# Altium schematic symbol library Sensors.SchLib: 104 symbols
Pins are listed as number, name and electrical type; pins without a type are passive.

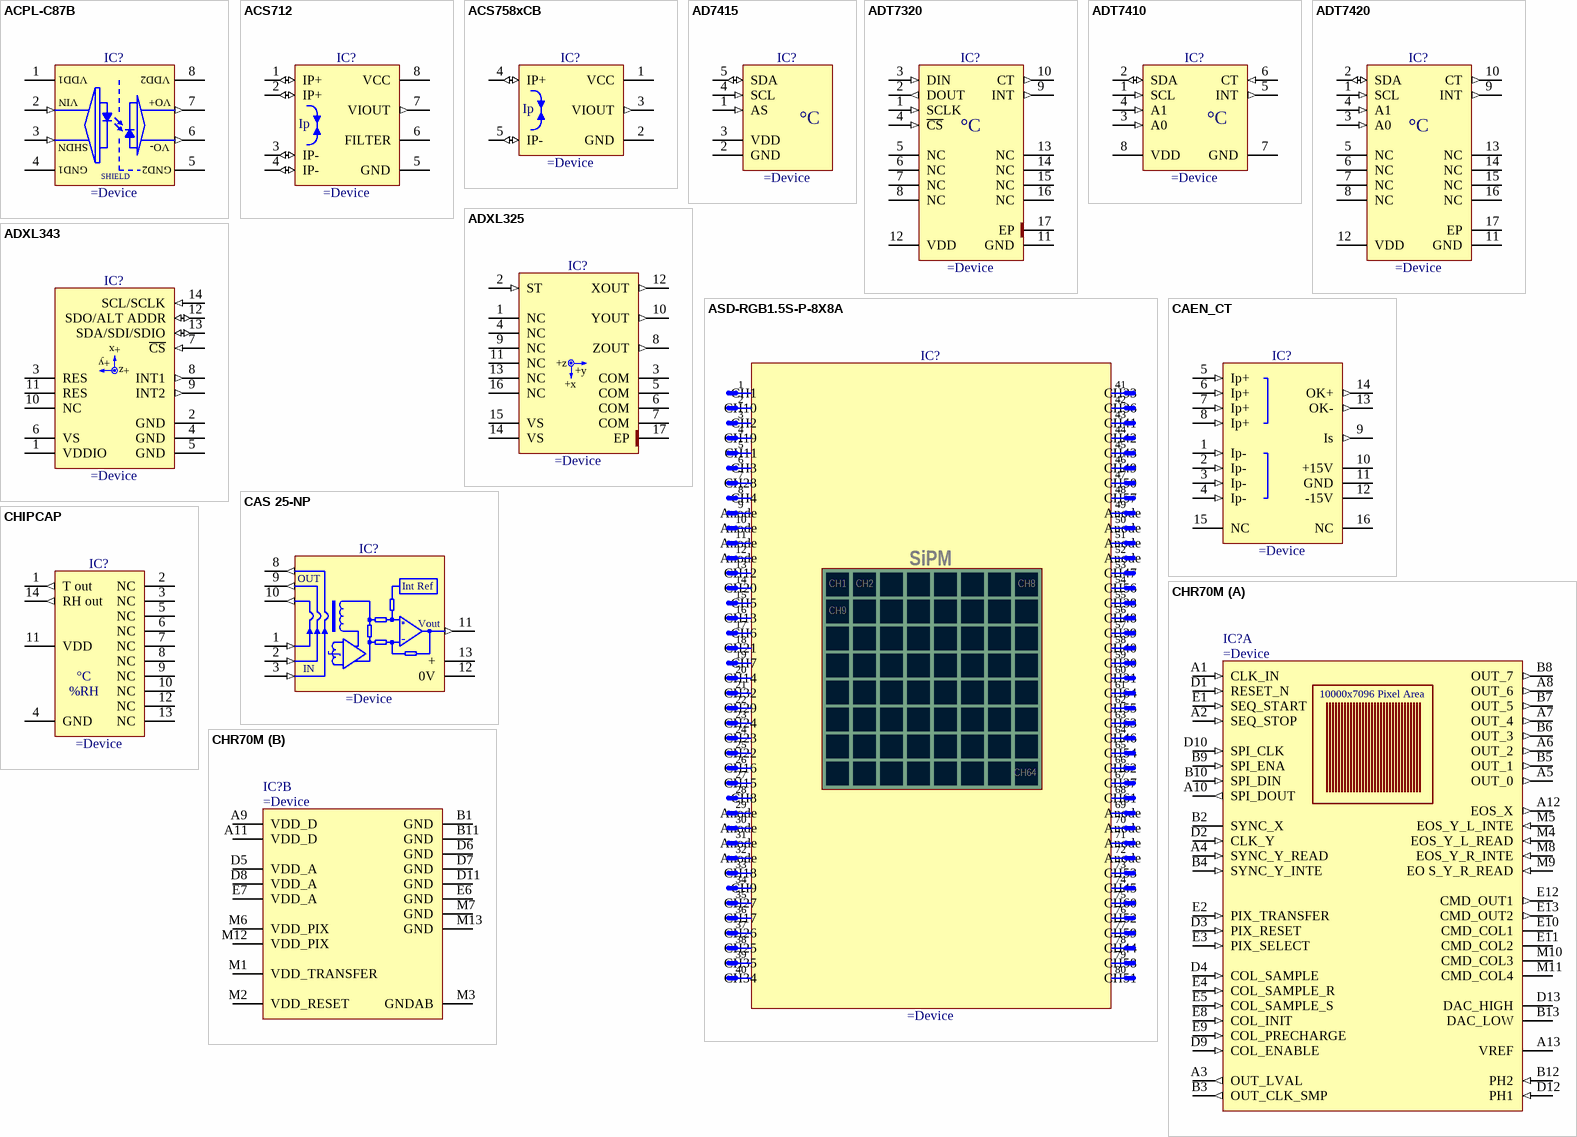
[diagram p0: symbols ACPL-C87B to CHR70M]

## ACPL-C87B
designator IC?
Precision Optically Isolated Voltage Sensor
pins: 1 VDD1 (power), 2 VIN (in), 3 SHDN (in), 4 GND1 (power), 5 GND2 (power), 6 VOUT- (out), 7 VOUT+ (out), 8 VDD2 (power)
text: VO+; VO-; SHIELD

## ACS712
designator IC?
Fully Integrated, Hall Effect-Based Linear Current Sensor IC with 2.1 kVRMS Isolation
pins: 1 IP+ (io), 2 IP+ (io), 3 IP- (io), 4 IP- (io), 5 GND (power), 6 FILTER, 7 VIOUT (out), 8 VCC (power)
text: Ip

## ACS758xCB
designator IC?
Thermally Enhanced, Fully Integrated, Hall Effect-Based Linear Current Sensor IC with 100μΩ Current Conductor
pins: 1 VCC (power), 2 GND (power), 3 VIOUT (out), 4 IP+ (io), 5 IP- (io)
text: Ip

## AD7415
designator IC?
±0.5°C Accurate, 10-Bit Digital Temperature Sensors
pins: 1 AS (in), 2 GND (power), 3 VDD (power), 4 SCL (in), 5 SDA (io)
text: °C

## ADT7320
designator IC?
-40° to +150°C, ±0.25°C Accurate, 16-Bit Digital SPI Temperature Sensor
pins: 1 SCLK (in), 2 DOUT (out), 3 DIN (in), 4 ~{CS} (in), 5 NC, 6 NC, 7 NC, 8 NC, 9 INT (out), 10 CT (out), 11 GND (power), 12 VDD (power), 13 NC, 14 NC, 15 NC, 16 NC, 17 EP (power)
text: °C

## ADT7410
designator IC?
±0.5°C Accurate, 16-Bit Digital I2C Temperature Sensor
pins: 1 SCL (in), 2 SDA (io), 3 A0 (in), 4 A1 (in), 5 INT (out), 6 CT (in), 7 GND (power), 8 VDD (power)
text: °C

## ADT7420
designator IC?
±0.25°C Accurate, 16-Bit Digital I2C Temperature Sensor
pins: 1 SCL (in), 2 SDA (io), 3 A0 (in), 4 A1 (in), 5 NC, 6 NC, 7 NC, 8 NC, 9 INT (out), 10 CT (out), 11 GND (power), 12 VDD (power), 13 NC, 14 NC, 15 NC, 16 NC, 17 EP (power)
text: °C

## ADXL325
designator IC?
Small, Low Power, 3-Axis ±5g Accelerometer
pins: 1 NC, 2 ST (in), 3 COM (power), 4 NC, 5 COM (power), 6 COM (power), 7 COM (power), 8 ZOUT (out), 9 NC, 10 YOUT (out), 11 NC, 12 XOUT (out), 13 NC, 14 VS (power), 15 VS (power), 16 NC, 17 EP (power)
text: +z; +y; +x

## ADXL343
designator IC?
3-Axis, ±2g/±4g/±8g/±16g Digital MEMS Accelerometer
pins: 1 VDDIO (power), 2 GND (power), 3 RES, 4 GND (power), 5 GND (power), 6 VS (power), 7 ~{CS} (in), 8 INT1 (out), 9 INT2 (out), 10 NC, 11 RES, 12 SDO/ALT ADDR (io), 13 SDA/SDI/SDIO (io), 14 SCL/SCLK (in)
text: +x; +y; +z

## ASD-RGB1.5S-P-8X8A
designator IC?
8x8 Monolithic Array of 1.5x1.5 mm2 SiPMs (Silicon PhotoMultiplier)
text: 1; 41; CH1; CH33; 2; 42; CH10; CH36; 3; 43; CH2; CH41; 4; 44; CH19; CH42; 5; 45; CH11; CH43; 6; 46; CH3; CH49; 7; 47; CH28; CH50; 8; 48; CH4; CH57; 9; 49; Anode; 10; 50; 11; 51; 12; 52; SiPM; 13; 53; CH12; CH47; 14; CH8; 54; CH20; CH56; 15; 55; CH5; CH38; 16; CH9; 56; CH13; CH48; 17; 57; CH6; CH39; 18; 58; CH21; CH40; 19; 59; CH7; CH30; 20; 60; CH14; CH31; 21; 61; CH32; CH64; 22; 62; CH29; CH55; 23; 63; CH24; CH63; 24; 64; CH23; CH46; 25; 65; CH22; CH54; 26; 66; CH16; CH62; 27; 67; CH15; CH37; 28; 68; CH61; 29; 69; 30; 70; 31; 71; 32; 72; 33; 73; CH18; CH53; 34; 74; CH45; 35; 75; CH27; CH60; 36; 76; CH17; CH52; 37; 77; CH26; CH59; 38; 78; CH25; CH44; 39; 79; CH35; CH58; 40; 80; CH34; CH51

## CAEN_CT
designator IC?
DC Current Transducer, CT PCB Series
pins: 1 Ip- (in), 2 Ip- (in), 3 Ip- (in), 4 Ip- (in), 5 Ip+ (in), 6 Ip+ (in), 7 Ip+ (in), 8 Ip+ (in), 9 Is (out), 10 +15V (power), 11 GND (power), 12 -15V (power), 13 OK- (out), 14 OK+ (out), 15 NC, 16 NC

## CAS 25-NP
designator IC?
Current Transducer, Ipn= 25A
pins: 1 IN1 (in), 2 IN2 (in), 3 IN3 (in), 8 OUT3 (out), 9 OUT2 (out), 10 OUT1 (out), 11 VOUT (out), 12 0V (power), 13 + (power)
text: OUT; Int Ref; Vout; IN

## CHIPCAP
designator IC?
Humidity and Temperature Sensor IC
pins: 1 T out (out), 2 NC, 3 NC, 4 GND (power), 5 NC, 6 NC, 7 NC, 8 NC, 9 NC, 10 NC, 11 VDD (power), 12 NC, 13 NC, 14 RH out (out)
text: °C; %RH

## CHR70M
designator IC?
High Resolution 70 Megapixels CMOS Image Sensor
part A pins: A1 CLK_IN (in), A2 SEQ_STOP (in), A3 OUT_LVAL (out), A4 SYNC_Y_READ (in), A5 OUT_0 (out), A6 OUT_2 (out), A7 OUT_4 (out), A8 OUT_6 (out), A10 SPI_DOUT (out), A12 EOS_X (out), A13 VREF, B2 SYNC_X, B3 OUT_CLK_SMP (out), B4 SYNC_Y_INTE (in), B5 OUT_1 (out), B6 OUT_3 (out), B7 OUT_5 (out), B8 OUT_7 (out), B9 SPI_ENA (in), B10 SPI_DIN (in), B12 PH2 (in), B13 DAC_LOW, D1 RESET_N (in), D2 CLK_Y (in), D3 PIX_RESET (in), D4 COL_SAMPLE (in), D9 COL_ENABLE (in), D10 SPI_CLK (in), D12 PH1 (in), D13 DAC_HIGH, E1 SEQ_START (in), E2 PIX_TRANSFER (in), E3 PIX_SELECT (in), E4 COL_SAMPLE_R (in), E5 COL_SAMPLE_S (in), E8 COL_INIT (in), E9 COL_PRECHARGE (in), E10 CMD_COL1, E11 CMD_COL2, E12 CMD_OUT1 (out), E13 CMD_OUT2 (out), M4 EOS_Y_L_READ (in), M5 EOS_Y_L_INTE (in), M8 EOS_Y_R_INTE (in), M9 EO S_Y_R_READ (in), M10 CMD_COL3, M11 CMD_COL4
part B pins: A9 VDD_D (power), A11 VDD_D (power), B1 GND (power), B11 GND (power), D5 VDD_A (power), D6 GND (power), D7 GND (power), D8 VDD_A (power), D11 GND (power), E6 GND (power), E7 VDD_A (power), M1 VDD_TRANSFER (power), M2 VDD_RESET (power), M3 GNDAB (power), M6 VDD_PIX (power), M7 GND (power), M12 VDD_PIX (power), M13 GND (power)
part A text: 10000x7096 Pixel Area

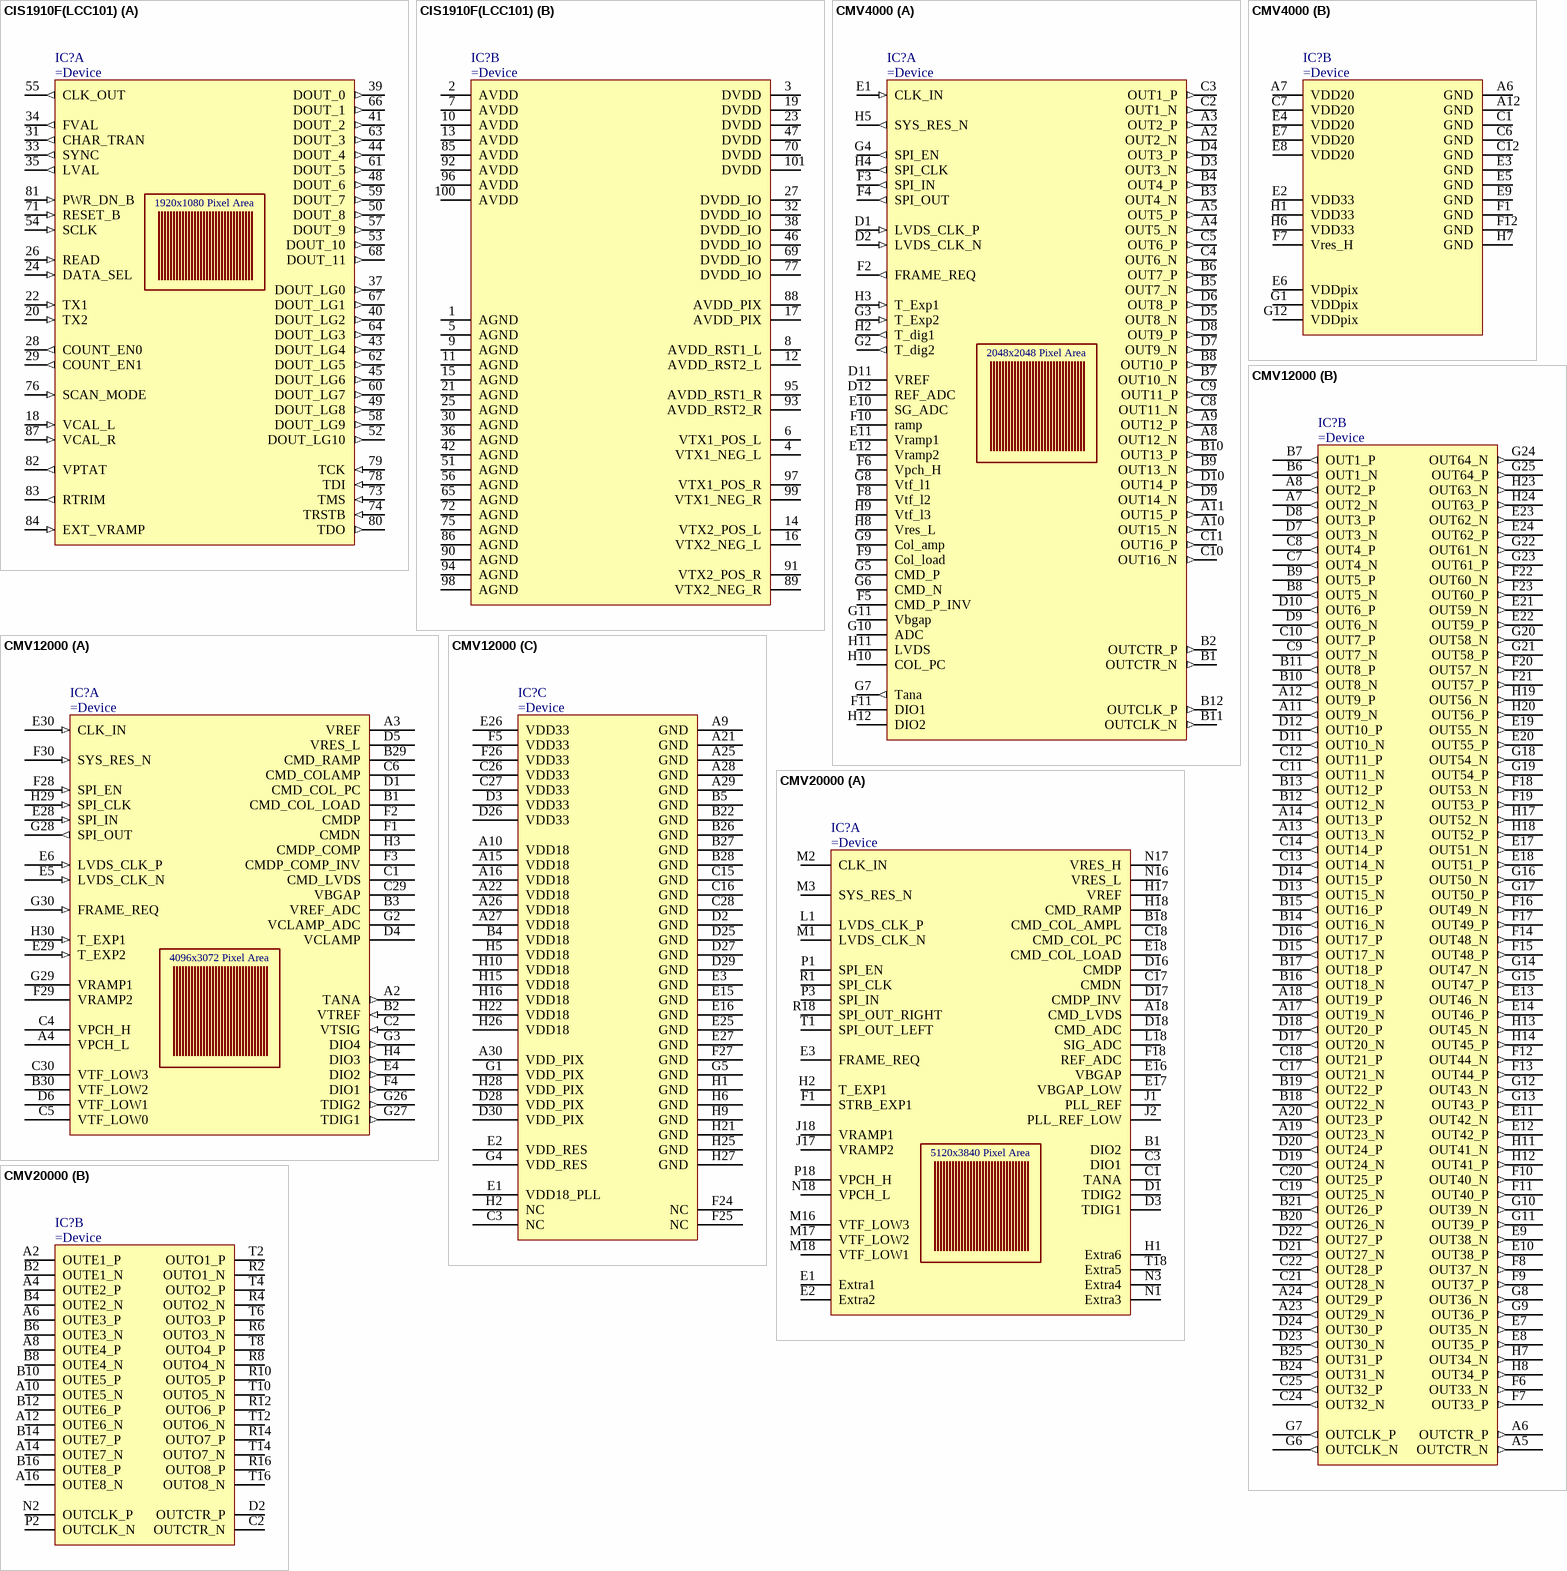
[diagram p1: symbols CIS1910F(LCC101) to CMV20000]

## CIS1910F(LCC101)
designator IC?
2.1 Megapixels (1920 x 1080 Pixel) CMOS Image Sensor
part A pins: 18 VCAL_L (in), 20 TX2 (in), 22 TX1 (in), 24 DATA_SEL (in), 26 READ (in), 28 COUNT_EN0 (out), 29 COUNT_EN1 (out), 31 CHAR_TRAN (out), 33 SYNC (out), 34 FVAL (out), 35 LVAL (out), 37 DOUT_LG0 (out), 39 DOUT_0 (out), 40 DOUT_LG2 (out), 41 DOUT_2 (out), 43 DOUT_LG4 (out), 44 DOUT_4 (out), 45 DOUT_LG6 (out), 48 DOUT_6 (out), 49 DOUT_LG8 (out), 50 DOUT_8 (out), 52 DOUT_LG10 (out), 53 DOUT_10 (out), 54 SCLK (in), 55 CLK_OUT (out), 57 DOUT_9 (out), 58 DOUT_LG9 (out), 59 DOUT_7 (out), 60 DOUT_LG7 (out), 61 DOUT_5 (out), 62 DOUT_LG5 (out), 63 DOUT_3 (out), 64 DOUT_LG3 (out), 66 DOUT_1 (out), 67 DOUT_LG1 (out), 68 DOUT_11 (out), 71 RESET_B (in), 73 TMS (in), 74 TRSTB (in), 76 SCAN_MODE (in), 78 TDI (in), 79 TCK (in), 80 TDO (out), 81 PWR_DN_B (in), 82 VPTAT (out), 83 RTRIM (out), 84 EXT_VRAMP (in), 87 VCAL_R (in)
part B pins: 1 AGND (power), 2 AVDD (power), 3 DVDD (power), 4 VTX1_NEG_L (power), 5 AGND (power), 6 VTX1_POS_L (power), 7 AVDD (power), 8 AVDD_RST1_L (power), 9 AGND (power), 10 AVDD (power), 11 AGND (power), 12 AVDD_RST2_L (power), 13 AVDD (power), 14 VTX2_POS_L (power), 15 AGND (power), 16 VTX2_NEG_L (power), 17 AVDD_PIX (power), 19 DVDD (power), 21 AGND (power), 23 DVDD (power), 25 AGND (power), 27 DVDD_IO (power), 30 AGND (power), 32 DVDD_IO (power), 36 AGND (power), 38 DVDD_IO (power), 42 AGND (power), 46 DVDD_IO (power), 47 DVDD (power), 51 AGND (power), 56 AGND (power), 65 AGND (power), 69 DVDD_IO (power), 70 DVDD (power), 72 AGND (power), 75 AGND (power), 77 DVDD_IO (power), 85 AVDD (power), 86 AGND (power), 88 AVDD_PIX (power), 89 VTX2_NEG_R (power), 90 AGND (power), 91 VTX2_POS_R (power), 92 AVDD (power), 93 AVDD_RST2_R (power), 94 AGND (power), 95 AVDD_RST1_R (power), 96 AVDD (power), 97 VTX1_POS_R (power), 98 AGND (power), 99 VTX1_NEG_R (power), 100 AVDD (power), 101 DVDD (power)
part A text: 1920x1080 Pixel Area

## CMV4000
designator IC?
Megapixel Machine Vision CMOS Image Sensor
part A pins: A2 OUT2_N (out), A3 OUT2_P (out), A4 OUT5_N (out), A5 OUT5_P (out), A8 OUT12_N (out), A9 OUT12_P (out), A10 OUT15_N (out), A11 OUT15_P (out), B1 OUTCTR_N (out), B2 OUTCTR_P (out), B3 OUT4_N (out), B4 OUT4_P (out), B5 OUT7_N (out), B6 OUT7_P (out), B7 OUT10_N (out), B8 OUT10_P (out), B9 OUT13_N (out), B10 OUT13_P (out), B11 OUTCLK_N (out), B12 OUTCLK_P (out), C2 OUT1_N (out), C3 OUT1_P (out), C4 OUT6_N (out), C5 OUT6_P (out), C8 OUT11_N (out), C9 OUT11_P (out), C10 OUT16_N (out), C11 OUT16_P (out), D1 LVDS_CLK_P (in), D2 LVDS_CLK_N (in), D3 OUT3_N (out), D4 OUT3_P (out), D5 OUT8_N (out), D6 OUT8_P (out), D7 OUT9_N (out), D8 OUT9_P (out), D9 OUT14_N (out), D10 OUT14_P (out), D11 VREF, D12 REF_ADC, E1 CLK_IN (in), E10 SG_ADC, E11 Vramp1, E12 Vramp2, F2 FRAME_REQ (out), F3 SPI_IN (out), F4 SPI_OUT (out), F5 CMD_P_INV, F6 Vpch_H, F8 Vtf_l2, F9 Col_load, F10 ramp, F11 DIO1, G2 T_dig2 (out), G3 T_Exp2 (in), G4 SPI_EN (out), G5 CMD_P, G6 CMD_N, G7 Tana (out), G8 Vtf_l1, G9 Col_amp, G10 ADC, G11 Vbgap, H2 T_dig1 (out), H3 T_Exp1 (in), H4 SPI_CLK (out), H5 SYS_RES_N (out), H8 Vres_L, H9 Vtf_l3, H10 COL_PC, H11 LVDS, H12 DIO2
part B pins: A6 GND (power), A7 VDD20 (power), A12 GND (power), C1 GND (power), C6 GND (power), C7 VDD20 (power), C12 GND (power), E2 VDD33 (power), E3 GND (power), E4 VDD20 (power), E5 GND (power), E6 VDDpix (power), E7 VDD20 (power), E8 VDD20 (power), E9 GND (power), F1 GND (power), F7 Vres_H (power), F12 GND (power), G1 VDDpix (power), G12 VDDpix (power), H1 VDD33 (power), H6 VDD33 (power), H7 GND (power)
part A text: 2048x2048 Pixel Area

## CMV12000
designator IC?
12 Megapixel Machine Vision CMOS Image Sensor
part A pins: A2 TANA (out), A3 VREF, A4 VPCH_L, B1 CMD_COL_LOAD, B2 VTREF (in), B3 VREF_ADC, B29 CMD_RAMP, B30 VTF_LOW2, C1 CMD_LVDS, C2 VTSIG (in), C4 VPCH_H, C5 VTF_LOW0, C6 CMD_COLAMP, C29 VBGAP, C30 VTF_LOW3, D1 CMD_COL_PC, D4 VCLAMP, D5 VRES_L, D6 VTF_LOW1, E4 DIO2 (out), E5 LVDS_CLK_N (in), E6 LVDS_CLK_P (in), E28 SPI_IN (in), E29 T_EXP2 (in), E30 CLK_IN (in), F1 CMDN, F2 CMDP, F3 CMDP_COMP_INV, F4 DIO1 (out), F28 SPI_EN (in), F29 VRAMP2, F30 SYS_RES_N (in), G2 VCLAMP_ADC, G3 DIO4 (out), G26 TDIG2 (out), G27 TDIG1 (out), G28 SPI_OUT (out), G29 VRAMP1, G30 FRAME_REQ (in), H3 CMDP_COMP, H4 DIO3 (out), H29 SPI_CLK (in), H30 T_EXP1 (in)
part B pins: A5 OUTCTR_N (out), A6 OUTCTR_P (out), A7 OUT2_N (out), A8 OUT2_P (out), A11 OUT9_N (out), A12 OUT9_P (out), A13 OUT13_N (out), A14 OUT13_P (out), A17 OUT19_N (out), A18 OUT19_P (out), A19 OUT23_N (out), A20 OUT23_P (out), A23 OUT29_N (out), A24 OUT29_P (out), B6 OUT1_N (out), B7 OUT1_P (out), B8 OUT5_N (out), B9 OUT5_P (out), B10 OUT8_N (out), B11 OUT8_P (out), B12 OUT12_N (out), B13 OUT12_P (out), B14 OUT16_N (out), B15 OUT16_P (out), B16 OUT18_N (out), B17 OUT18_P (out), B18 OUT22_N (out), B19 OUT22_P (out), B20 OUT26_N (out), B21 OUT26_P (out), B24 OUT31_N (out), B25 OUT31_P (out), C7 OUT4_N (out), C8 OUT4_P (out), C9 OUT7_N (out), C10 OUT7_P (out), C11 OUT11_N (out), C12 OUT11_P (out), C13 OUT14_N (out), C14 OUT14_P (out), C17 OUT21_N (out), C18 OUT21_P (out), C19 OUT25_N (out), C20 OUT25_P (out), C21 OUT28_N (out), C22 OUT28_P (out), C24 OUT32_N (out), C25 OUT32_P (out), D7 OUT3_N (out), D8 OUT3_P (out), D9 OUT6_N (out), D10 OUT6_P (out), D11 OUT10_N (out), D12 OUT10_P (out), D13 OUT15_N (out), D14 OUT15_P (out), D15 OUT17_N (out), D16 OUT17_P (out), D17 OUT20_N (out), D18 OUT20_P (out), D19 OUT24_N (out), D20 OUT24_P (out), D21 OUT27_N (out), D22 OUT27_P (out), D23 OUT30_N (out), D24 OUT30_P (out), E7 OUT35_N (out), E8 OUT35_P (out), E9 OUT38_N (out), E10 OUT38_P (out), E11 OUT42_N (out), E12 OUT42_P (out), E13 OUT46_N (out), E14 OUT46_P (out), E17 OUT51_N (out), E18 OUT51_P (out), E19 OUT55_N (out), E20 OUT55_P (out), E21 OUT59_N (out), E22 OUT59_P (out), E23 OUT62_N (out), E24 OUT62_P (out), F6 OUT33_N (out), F7 OUT33_P (out), F8 OUT37_N (out), F9 OUT37_P (out), F10 OUT40_N (out), F11 OUT40_P (out), F12 OUT44_N (out), F13 OUT44_P (out), F14 OUT48_N (out), F15 OUT48_P (out), F16 OUT49_N (out), F17 OUT49_P (out), F18 OUT53_N (out), F19 OUT53_P (out), F20 OUT57_N (out), F21 OUT57_P (out), F22 OUT60_N (out), F23 OUT60_P (out), G6 OUTCLK_N (out), G7 OUTCLK_P (out), G8 OUT36_N (out), G9 OUT36_P (out), G10 OUT39_N (out), G11 OUT39_P (out), G12 OUT43_N (out), G13 OUT43_P (out), G14 OUT47_N (out), G15 OUT47_P (out), G16 OUT50_N (out), G17 OUT50_P (out), G18 OUT54_N (out), G19 OUT54_P (out), G20 OUT58_N (out), G21 OUT58_P (out), G22 OUT61_N (out), G23 OUT61_P (out), G24 OUT64_N (out), G25 OUT64_P (out), H7 OUT34_N (out), H8 OUT34_P (out), H11 OUT41_N (out), H12 OUT41_P (out), H13 OUT45_N (out), H14 OUT45_P (out), H17 OUT52_N (out), H18 OUT52_P (out), H19 OUT56_N (out), H20 OUT56_P (out), H23 OUT63_N (out), H24 OUT63_P (out)
part C pins: A9 GND (power), A10 VDD18 (power), A15 VDD18 (power), A16 VDD18 (power), A21 GND (power), A22 VDD18 (power), A25 GND (power), A26 VDD18 (power), A27 VDD18 (power), A28 GND (power), A29 GND (power), A30 VDD_PIX (power), B4 VDD18 (power), B5 GND (power), B22 GND (power), B26 GND (power), B27 GND (power), B28 GND (power), C3 NC, C15 GND (power), C16 GND (power), C26 VDD33 (power), C27 VDD33 (power), C28 GND (power), D2 GND (power), D3 VDD33 (power), D25 GND (power), D26 VDD33 (power), D27 GND (power), D28 VDD_PIX (power), D29 GND (power), D30 VDD_PIX (power), E1 VDD18_PLL (power), E2 VDD_RES (power), E3 GND (power), E15 GND (power), E16 GND (power), E25 GND (power), E26 VDD33 (power), E27 GND (power), F5 VDD33 (power), F24 NC, F25 NC, F26 VDD33 (power), F27 GND (power), G1 VDD_PIX (power), G4 VDD_RES (power), G5 GND (power), H1 GND (power), H2 NC, H5 VDD18 (power), H6 GND (power), H9 GND (power), H10 VDD18 (power), H15 VDD18 (power), H16 VDD18 (power), H21 GND (power), H22 VDD18 (power), H25 GND (power), H26 VDD18 (power), H27 GND (power), H28 VDD_PIX (power)
part A text: 4096x3072 Pixel Area

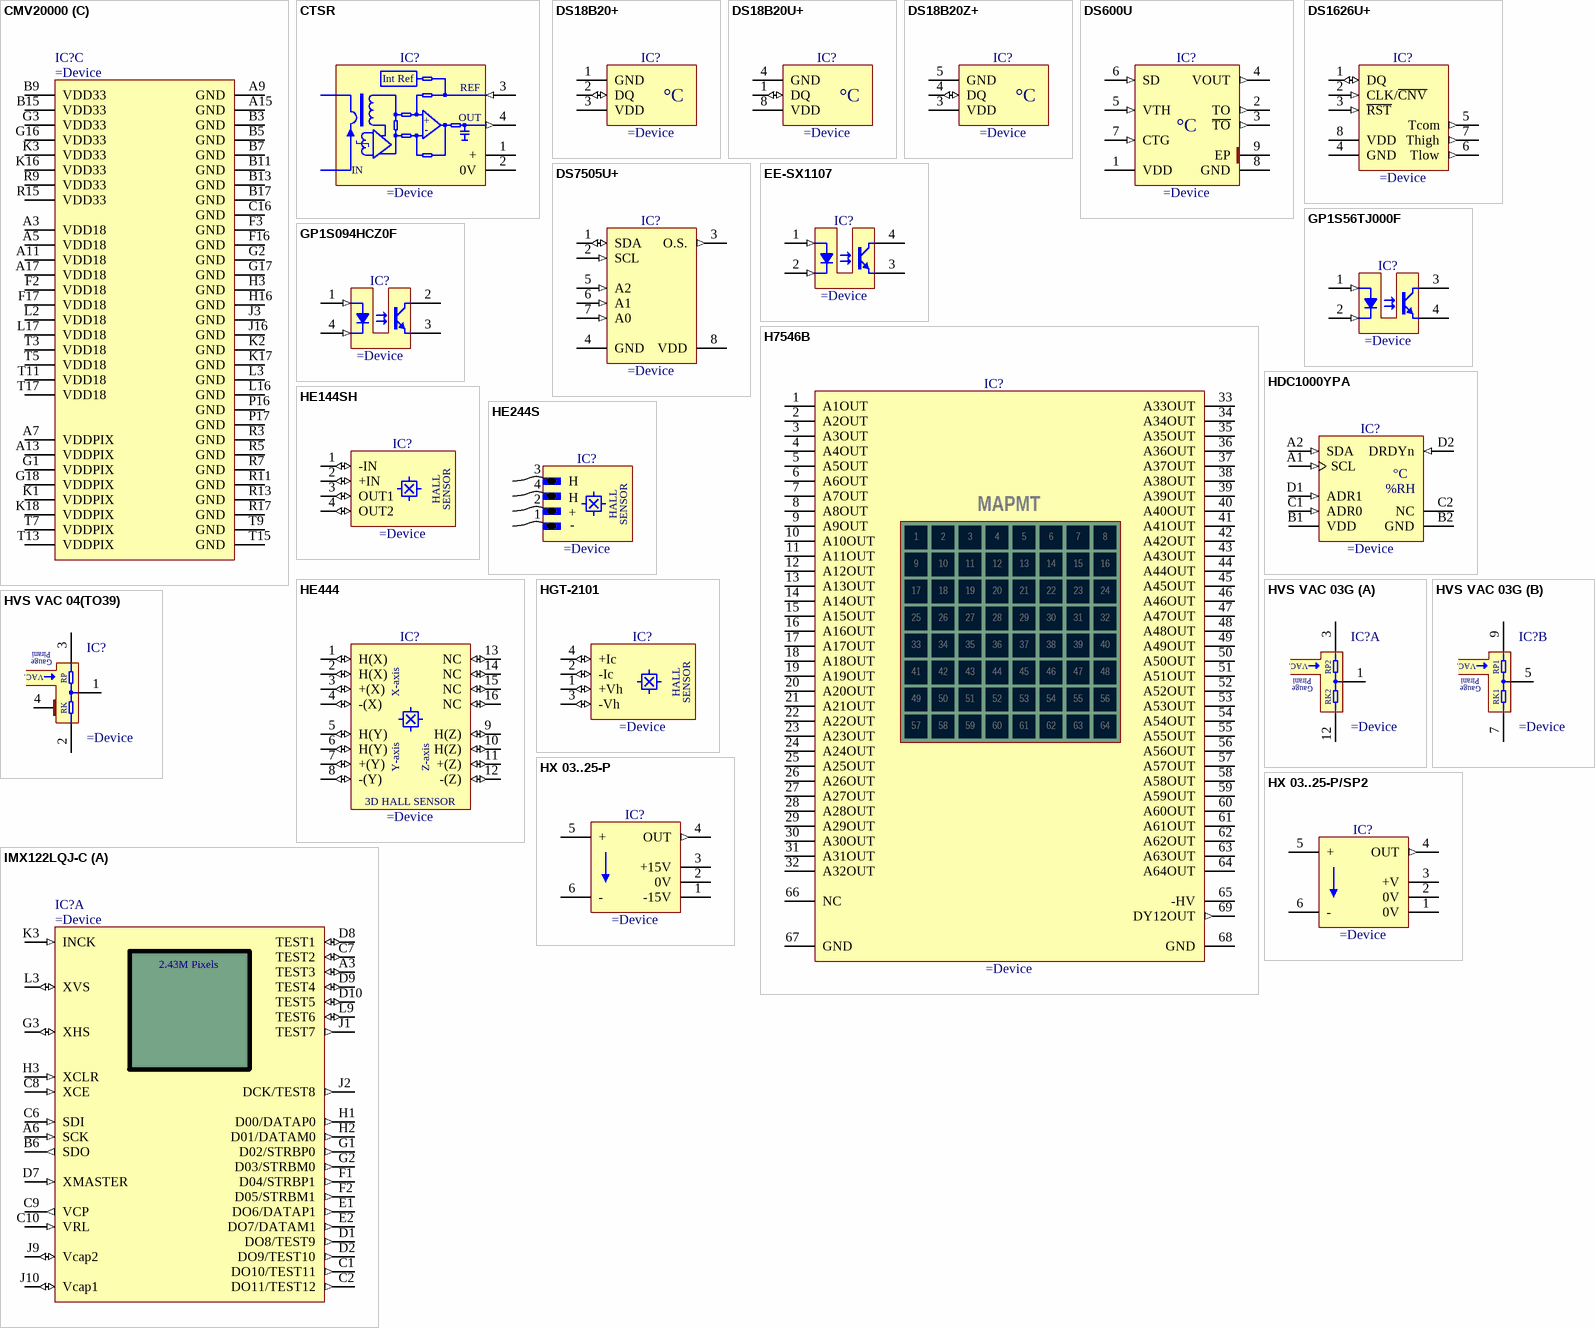
[diagram p2: symbols CMV20000 to IMX122LQJ-C]

## CMV20000
designator IC?
20 Megapixel Machine Global Shutter CMOS Image Sensor
part A pins: A18 CMD_LVDS (power), B1 DIO2 (power), B18 CMD_COL_AMPL (power), C1 TANA (power), C3 DIO1 (power), C17 CMDN (power), C18 CMD_COL_PC (power), D1 TDIG2 (power), D3 TDIG1 (power), D16 CMDP (power), D17 CMDP_INV (power), D18 CMD_ADC (power), E1 Extra1 (power), E2 Extra2 (power), E3 FRAME_REQ (power), E16 VBGAP (power), E17 VBGAP_LOW (power), E18 CMD_COL_LOAD (power), F1 STRB_EXP1 (power), F18 REF_ADC (power), H1 Extra6 (power), H2 T_EXP1 (power), H17 VREF (power), H18 CMD_RAMP (power), J1 PLL_REF (power), J2 PLL_REF_LOW (power), J17 VRAMP2 (power), J18 VRAMP1 (power), L1 LVDS_CLK_P (power), L18 SIG_ADC (power), M1 LVDS_CLK_N (power), M2 CLK_IN (power), M3 SYS_RES_N (power), M16 VTF_LOW3 (power), M17 VTF_LOW2 (power), M18 VTF_LOW1 (power), N1 Extra3 (power), N3 Extra4 (power), N16 VRES_L (power), N17 VRES_H (power), N18 VPCH_L (power), P1 SPI_EN (power), P3 SPI_IN (power), P18 VPCH_H (power), R1 SPI_CLK (power), R18 SPI_OUT_RIGHT (power), T1 SPI_OUT_LEFT (power), T18 Extra5 (power)
part B pins: A2 OUTE1_P (power), A4 OUTE2_P (power), A6 OUTE3_P (power), A8 OUTE4_P (power), A10 OUTE5_N (power), A12 OUTE6_N (power), A14 OUTE7_N (power), A16 OUTE8_N (power), B2 OUTE1_N (power), B4 OUTE2_N (power), B6 OUTE3_N (power), B8 OUTE4_N (power), B10 OUTE5_P (power), B12 OUTE6_P (power), B14 OUTE7_P (power), B16 OUTE8_P (power), C2 OUTCTR_N (power), D2 OUTCTR_P (power), N2 OUTCLK_P (power), P2 OUTCLK_N (power), R2 OUTO1_N (power), R4 OUTO2_N (power), R6 OUTO3_N (power), R8 OUTO4_N (power), R10 OUTO5_P (power), R12 OUTO6_P (power), R14 OUTO7_P (power), R16 OUTO8_P (power), T2 OUTO1_P (power), T4 OUTO2_P (power), T6 OUTO3_P (power), T8 OUTO4_P (power), T10 OUTO5_N (power), T12 OUTO6_N (power), T14 OUTO7_N (power), T16 OUTO8_N (power)
part C pins: A3 VDD18 (power), A5 VDD18 (power), A7 VDDPIX (power), A9 GND (power), A11 VDD18 (power), A13 VDDPIX (power), A15 GND (power), A17 VDD18 (power), B3 GND (power), B5 GND (power), B7 GND (power), B9 VDD33 (power), B11 GND (power), B13 GND (power), B15 VDD33 (power), B17 GND (power), C16 GND (power), F2 VDD18 (power), F3 GND (power), F16 GND (power), F17 VDD18 (power), G1 VDDPIX (power), G2 GND (power), G3 VDD33 (power), G16 VDD33 (power), G17 GND (power), G18 VDDPIX (power), H3 GND (power), H16 GND (power), J3 GND (power), J16 GND (power), K1 VDDPIX (power), K2 GND (power), K3 VDD33 (power), K16 VDD33 (power), K17 GND (power), K18 VDDPIX (power), L2 VDD18 (power), L3 GND (power), L16 GND (power), L17 VDD18 (power), P16 GND (power), P17 GND (power), R3 GND (power), R5 GND (power), R7 GND (power), R9 VDD33 (power), R11 GND (power), R13 GND (power), R15 VDD33 (power), R17 GND (power), T3 VDD18 (power), T5 VDD18 (power), T7 VDDPIX (power), T9 GND (power), T11 VDD18 (power), T13 VDDPIX (power), T15 GND (power), T17 VDD18 (power)
part A text: 5120x3840 Pixel Area

## CTSR
designator IC?
Current Transducer
pins: 1 + (power), 2 0V (power), 3 REF (in), 4 OUT (out)
text: Int Ref; -; IN

## DS18B20+
designator IC?
Programmable Resolution 1-Wire Digital Thermometer
pins: 1 GND (power), 2 DQ (io), 3 VDD (power)
text: °C

## DS18B20U+
designator IC?
Programmable Resolution 1-Wire Digital Thermometer
pins: 1 DQ (io), 4 GND (power), 8 VDD (power)
text: °C

## DS18B20Z+
designator IC?
Programmable Resolution 1-Wire Digital Thermometer
pins: 3 VDD (power), 4 DQ (io), 5 GND (power)
text: °C

## DS600U
designator IC?
-20°C to +100°C, ±0.5 Accurate Analog-Output Temperature Sensor
pins: 1 VDD (power), 2 TO (out), 3 ~{TO} (out), 4 VOUT (out), 5 VTH (in), 6 SD (in), 7 CTG (in), 8 GND (power), 9 EP (power)
text: °C

## DS1626U+
designator IC?
-55°C to +125°C High-Precision 3-Wire Digital Thermometer and Thermostat
pins: 1 DQ (io), 2 CLK/~{CNV} (in), 3 ~{RST} (in), 4 GND (power), 5 Tcom (out), 6 Tlow (out), 7 Thigh (out), 8 VDD (power)

## DS7505U+
designator IC?
-55°C to +125°C, High-Precision Digital Thermometer And Thermostat
pins: 1 SDA (io), 2 SCL (in), 3 O.S. (out), 4 GND (power), 5 A2 (in), 6 A1 (in), 7 A0 (in), 8 VDD (power)

## EE-SX1107
designator IC?
Photomicrosensor (Transmissive)
pins: 1 A (in), 2 K (in), 3 E (oe), 4 C (oc)

## GP1S56TJ000F
designator IC?
Gap : 2mm, Slit : 0.15mm Phototransistor Output, Case package Transmissive Photointerrupter
pins: 1 A (in), 2 K (in), 3 C (oc), 4 E (oe)

## GP1S094HCZ0F
designator IC?
Gap : 3mm, Slit : 0.3mm Phototransistor Output, Compact Transmissive Photointerrupter
pins: 1 A (in), 2 C (oc), 3 E (oe), 4 K (in)

## H7546B
designator IC?
MAPMT 8×8 Multianode, High Speed Response, Low Cross-talk, 30 mm2
pins: 1 A1OUT, 2 A2OUT, 3 A3OUT, 4 A4OUT, 5 A5OUT, 6 A6OUT, 7 A7OUT, 8 A8OUT, 9 A9OUT, 10 A10OUT, 11 A11OUT, 12 A12OUT, 13 A13OUT, 14 A14OUT, 15 A15OUT, 16 A16OUT, 17 A17OUT, 18 A18OUT, 19 A19OUT, 20 A20OUT, 21 A21OUT, 22 A22OUT, 23 A23OUT, 24 A24OUT, 25 A25OUT, 26 A26OUT, 27 A27OUT, 28 A28OUT, 29 A29OUT, 30 A30OUT, 31 A31OUT, 32 A32OUT, 33 A33OUT, 34 A34OUT, 35 A35OUT, 36 A36OUT, 37 A37OUT, 38 A38OUT, 39 A39OUT, 40 A40OUT, 41 A41OUT, 42 A42OUT, 43 A43OUT, 44 A44OUT, 45 A45OUT, 46 A46OUT, 47 A47OUT, 48 A48OUT, 49 A49OUT, 50 A50OUT, 51 A51OUT, 52 A52OUT, 53 A53OUT, 54 A54OUT, 55 A55OUT, 56 A56OUT, 57 A57OUT, 58 A58OUT, 59 A59OUT, 60 A60OUT, 61 A61OUT, 62 A62OUT, 63 A63OUT, 64 A64OUT, 65 -HV, 66 NC (power), 67 GND (power), 68 GND (power), 69 DY12OUT (out)
text: MAPMT

## HDC1000YPA
designator IC?
Low Power, High Accuracy Digital Humidity Sensor With Temperature Sensor
pins: A1 SCL (in), A2 SDA (in), B1 VDD (power), B2 GND (power), C1 ADR0 (in), C2 NC, D1 ADR1 (in), D2 DRDYn (in)
text: °C; %RH

## HE144SH
designator IC?
Linear High Precision, Analog Hall Sensor, HE144 Series
pins: 1 -IN (io), 2 +IN (io), 3 OUT1 (io), 4 OUT2 (io)
text: HALL; SENSOR

## HE244S
designator IC?
HE244 Series Analog Hall Sensor
text: 3; 4; H; 2; HALL; SENSOR; 1; +; -

## HE444
designator IC?
HE444 Series 3D Analog Hall Sensor
pins: 1 H(X) (io), 2 H(X) (io), 3 +(X) (io), 4 -(X) (io), 5 H(Y) (io), 6 H(Y) (io), 7 +(Y) (io), 8 -(Y) (io), 9 H(Z) (io), 10 H(Z) (io), 11 +(Z) (io), 12 -(Z) (io), 13 NC (io), 14 NC (io), 15 NC (io), 16 NC (io)
text: X-axis; Y-axis; Z-axis; 3D HALL SENSOR

## HGT-2101
designator IC?
Hall Sensor, Magnetic Field Sensor HGT-2101
pins: 1 +Vh (io), 2 -Ic (io), 3 -Vh (io), 4 +Ic (io)
text: HALL; SENSOR

## HVS VAC 03G
designator IC?
MEMS Type Pirani Vacuum Sensor
part A pins: 1 RP2-RK2, 3 RP2, 12 RK2
part B pins: 5 RP1-RK1, 7 RK1, 9 RP1
1 alternate drawing of the same symbol
part A text: VAC.; Pirani; Gauge
part B text: VAC.; Pirani; Gauge

## HVS VAC 04(TO39)
designator IC?
MEMS Type Pirani Vacuum Sensor
pins: 1 RP-RK, 2 RK, 3 RP, 4 CASE
1 alternate drawing of the same symbol
text: Pirani; Gauge; VAC.

## HX 03..25-P
designator IC?
Current Transducer
pins: 1 -15V (power), 2 0V (power), 3 +15V (power), 4 OUT (out), 5 +, 6 -

## HX 03..25-P/SP2
designator IC?
Current Transducer
pins: 1 0V (power), 2 0V (power), 3 +V (power), 4 OUT (out), 5 +, 6 -

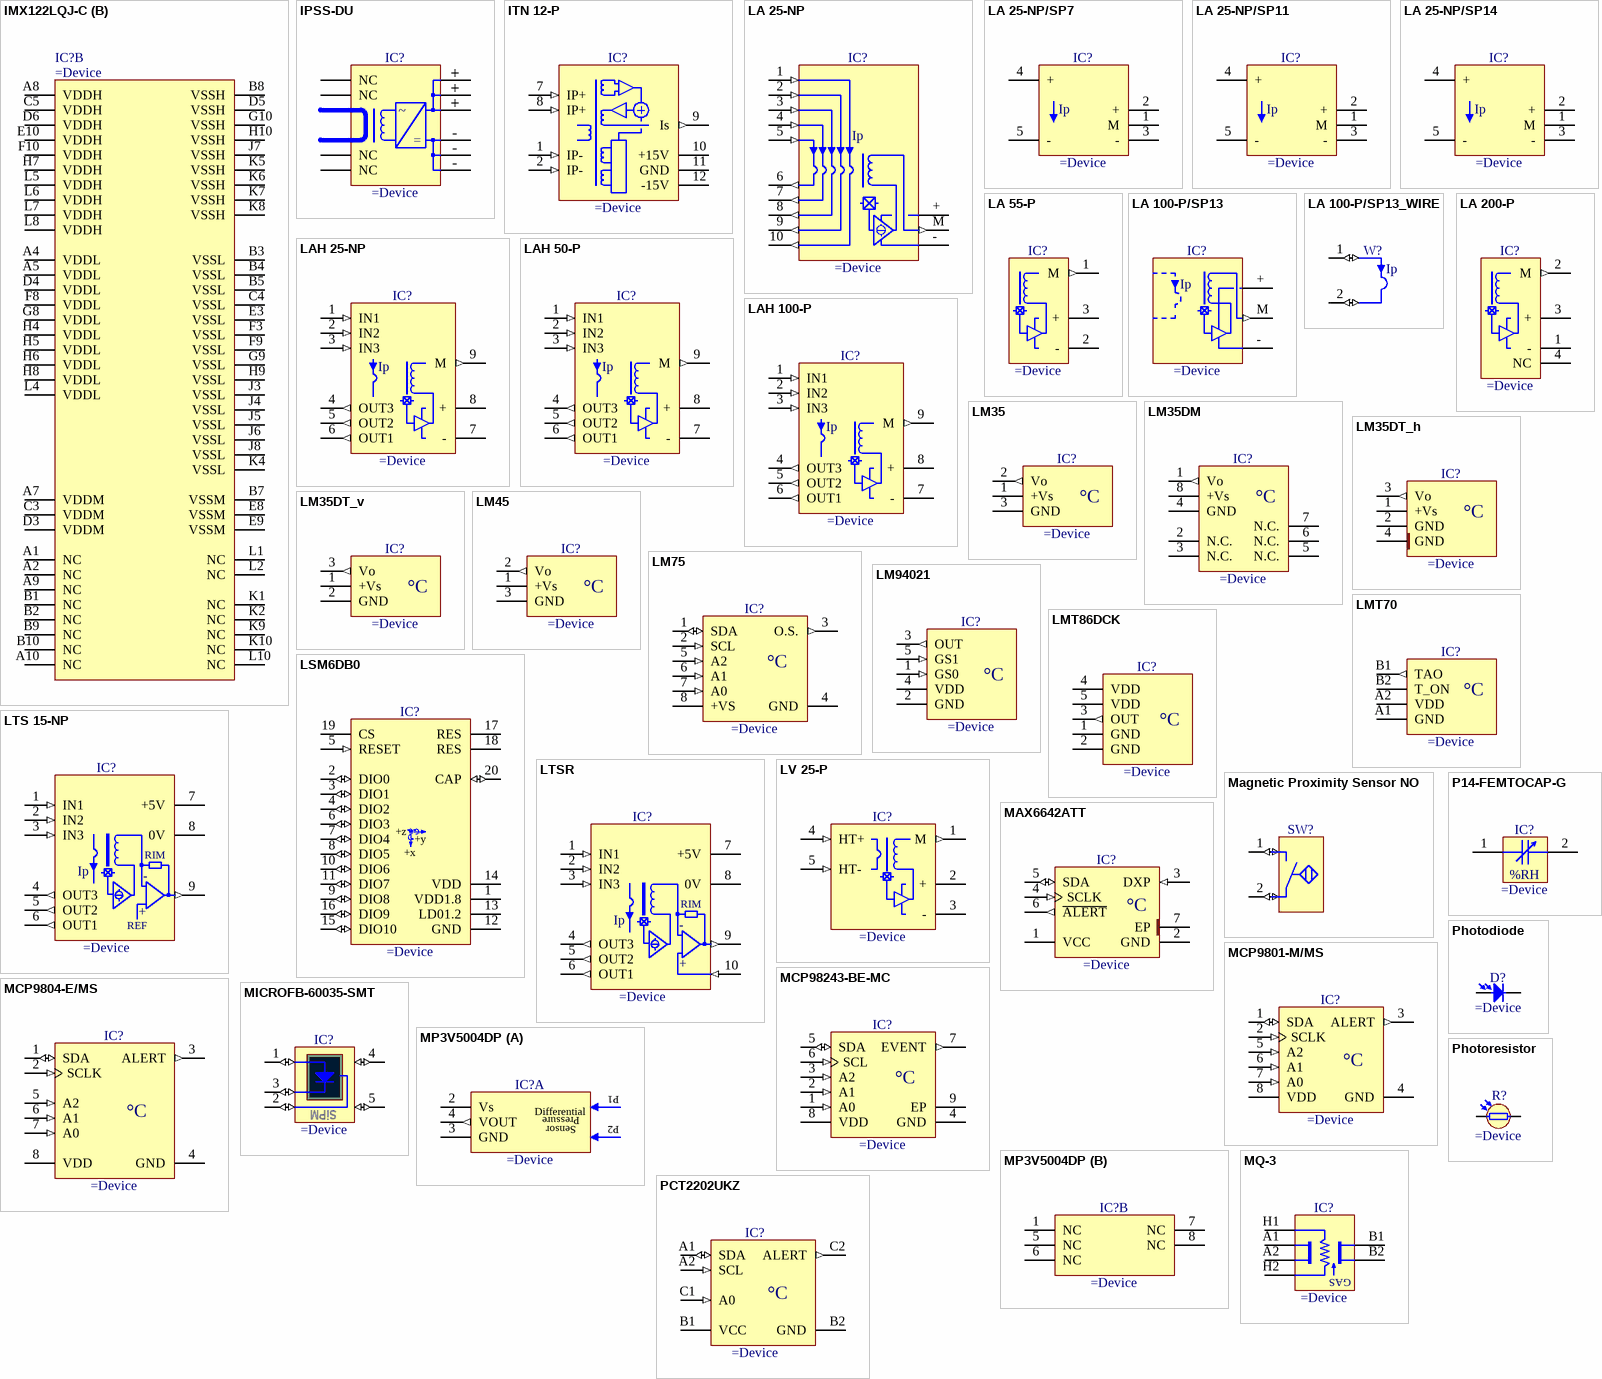
[diagram p3: symbols IMX122LQJ-C to Photoresistor]

## IMX122LQJ-C
designator IC?
Diagonal 6.4mm (Type 1/2.9) CMOS Image Sensor with Square Pixel Array 2.43M Pixels for Color Cameras
part A pins: A3 TEST3 (io) "Test", A6 SCK (in) "Serial I/F (Communication Clock Input)", B6 SDO (out) "Serial I/F (Register Value Output)", C1 DO10/TEST11 (out) "When CMOS Output : Dlgltal Output / When LVDS Output : Open", C2 DO11/TEST12 (out) "When CMOS Output : Dlgltal Output / When LVDS Output : Open", C6 SDI (in) "Serial I/F (Register Value Input)", C7 TEST2 (io) "Test", C8 XCE (in) "Serial I/F (Communication Enable)", C9 VCP (out) "Connected to VRL", C10 VRL (in) "Connected to VCP", D1 DO8/TEST9 (out) "When CMOS Output : Dlgltal Output / When LVDS Output : Open", D2 DO9/TEST10 (out) "When CMOS Output : Dlgltal Output / When LVDS Output : Open", D7 XMASTER (in) "Slave Mode : High / Master Mode : Low", D8 TEST1 (io) "Test", D9 TEST4 (io) "Test", D10 TEST5 (io) "Test", E1 DO6/DATAP1 (out) "When CMOS Output : Dlgltal Output / When LVDS Output: LVDS DATAP1 Signal Output of Low Power version", E2 DO7/DATAM1 (out) "When CMOS Output : Dlgltal Output / When LVDS Output: LVDS DATAM1 Signal Output of Low Power version", F1 D04/STRBP1 (out) "When CMOS Output : Dlgltal Output / When LVDS Output: LVDS strobeP1 Signal Output of Low Power version", F2 D05/STRBM1 (out) "When CMOS Output : Dlgltal Output / When LVDS Output: LVDS strobeM1 Signal Output of Low Power version", G1 D02/STRBP0 (out) "When CMOS Output : Dlgltal Output / When LVDS Output: LVDS strobeP0 Signal Output of Low Power version", G2 D03/STRBM0 (out) "When CMOS Output : Dlgltal Output / When LVDS Output: LVDS strobeM0 Signal Output of Low Power version", G3 XHS (io) "Horizontal Synch Signal Input-Output / Salve Mode : Input, Master Mode : Ouput", H1 D00/DATAP0 (out) "When CMOS Output : Dlgltal Output / When LVDS Output: LVDS DATAP0 Signal Output of Low Power version", H2 D01/DATAM0 (out) "When CMOS Output : Dlgltal Output / When LVDS Output: LVDS DATAM0 Signal Output of Low Power version", H3 XCLR (in) "System Clear", J1 TEST7 (out) "Test", J2 DCK/TEST8 (out) "When CMOS Output : Clock Output / When LVDS Output: Open", J9 Vcap2 (io) "Test", J10 Vcap1 (io) "Test", K3 INCK (in) "Master Clock", L3 XVS (io) "Horizontal Synch Signal Input-Output / Salve Mode : Input, Master Mode : Ouput", L9 TEST6 (io) "Test"
part B pins: A1 NC "Not Connected", A2 NC "Not Connected", A4 VDDL (power) "1.2V Power Supply", A5 VDDL (power) "1.2V Power Supply", A7 VDDM (power) "1.8V Power Supply", A8 VDDH (power) "2.7V Power Supply", A9 NC "Not Connected", A10 NC "Not Connected", B1 NC "Not Connected", B2 NC "Not Connected", B3 VSSL (power) "1.2V GND", B4 VSSL (power) "1.2V GND", B5 VSSL (power) "1.2V GND", B7 VSSM (power) "1.8V GND", B8 VSSH (power) "2.7V GND", B9 NC "Not Connected", B10 NC "Not Connected", C3 VDDM (power) "1.8V Power Supply", C4 VSSL (power) "1.2V GND", C5 VDDH (power) "2.7V Power Supply", D3 VDDM (power) "1.8V Power Supply", D4 VDDL (power) "1.2V Power Supply", D5 VSSH (power) "2.7V GND", D6 VDDH (power) "2.7V Power Supply", E3 VSSL (power) "1.2V GND", E8 VSSM (power) "1.8V GND", E9 VSSM (power) "1.8V GND", E10 VDDH (power) "2.7V Power Supply", F3 VSSL (power) "1.2V GND", F8 VDDL (power) "1.2V Power Supply", F9 VSSL (power) "1.2V GND", F10 VDDH (power) "2.7V Power Supply", G8 VDDL (power) "1.2V Power Supply", G9 VSSL (power) "1.2V GND", G10 VSSH (power) "2.7V GND", H4 VDDL (power) "1.2V Power Supply", H5 VDDL (power) "1.2V Power Supply", H6 VDDL (power) "1.2V Power Supply", H7 VDDH (power) "2.7V Power Supply", H8 VDDL (power) "1.2V Power Supply", H9 VSSL (power) "1.2V GND", H10 VSSH (power) "2.7V GND", J3 VSSL (power) "1.2V GND", J4 VSSL (power) "1.2V GND", J5 VSSL (power) "1.2V GND", J6 VSSL (power) "1.2V GND", J7 VSSH (power) "2.7V GND", J8 VSSL (power) "1.2V GND", K1 NC "Not Connected", K2 NC "Not Connected", K4 VSSL (power) "1.2V GND", K5 VSSH (power) "2.7V GND", K6 VSSH (power) "2.7V GND", K7 VSSH (power) "2.7V GND", K8 VSSH (power) "2.7V GND", K9 NC "Not Connected", K10 NC "Not Connected", L1 NC "Not Connected", L2 NC "Not Connected", L4 VDDL (power) "1.2V Power Supply", L5 VDDH (power) "2.7V Power Supply", L6 VDDH (power) "2.7V Power Supply", L7 VDDH (power) "2.7V Power Supply", L8 VDDH (power) "2.7V Power Supply", L10 NC "Not Connected"
part A text: 2.43M Pixels

## IPSS-DU
designator IC?
Decoupling Unit (DU) Using Toroidal-Core Transformer
pins: +1 + (power), +2 + (power), +3 + (power), -1 - (power), -2 - (power), -3 - (power), NC1 NC, NC2 NC, NC3 NC, NC4 NC
text: ~

## ITN 12-P
designator IC?
High Performance Current Transducer, Ipn= 12.5A
pins: 1 IP- (in), 2 IP- (in), 7 IP+ (in), 8 IP+ (in), 9 Is (out), 10 +15V (power), 11 GND (power), 12 -15V (power)

## LA 25-NP
designator IC?
Current Transducer (Ipn=25A)
pins: 1 IN1 (in), 2 IN2 (in), 3 IN3 (in), 4 IN4 (in), 5 IN5 (in), 6 OUT5 (out), 7 OUT4 (out), 8 OUT3 (out), 9 OUT2 (out), 10 OUT1 (out), + (power), - (power), M (out)
text: Ip

## LA 25-NP/SP7
designator IC?
Current Transducer
pins: 1 M (power), 2 + (power), 3 - (power), 4 +, 5 -
text: Ip

## LA 25-NP/SP11
designator IC?
Current Transducer
pins: 1 M (power), 2 + (power), 3 - (power), 4 +, 5 -
text: Ip

## LA 25-NP/SP14
designator IC?
Current Transducer
pins: 1 M (power), 2 + (power), 3 - (power), 4 +, 5 -
text: Ip

## LA 55-P
designator IC?
Current Transducer (Ipn=50A)
pins: 1 M (out), 2 - (power), 3 + (power)

## LA 100-P/SP13
designator IC?
Current Transducer (Ipn=100A)
pins: + (power), - (power), M (out)
text: Ip

## LA 100-P/SP13_WIRE
designator W?
Current Transducer (Ipn=100A)
pins: 1 (io), 2 (io)
text: Ip

## LA 200-P
designator IC?
Current Transducer (Ipn=200A)
pins: 1 - (power), 2 M (out), 3 + (power), 4 NC

## LAH 25-NP
designator IC?
Current Transducer (Ipn=25A)
pins: 1 IN1 (in), 2 IN2 (in), 3 IN3 (in), 4 OUT3 (out), 5 OUT2 (out), 6 OUT1 (out), 7 - (power), 8 + (power), 9 M (out)
text: Ip

## LAH 50-P
designator IC?
Current Transducer (Ipn=50A)
pins: 1 IN1 (in), 2 IN2 (in), 3 IN3 (in), 4 OUT3 (out), 5 OUT2 (out), 6 OUT1 (out), 7 - (power), 8 + (power), 9 M (out)
text: Ip

## LAH 100-P
designator IC?
Current Transducer (Ipn=100A)
pins: 1 IN1 (in), 2 IN2 (in), 3 IN3 (in), 4 OUT3 (out), 5 OUT2 (out), 6 OUT1 (out), 7 - (power), 8 + (power), 9 M (out)
text: Ip

## LM35
designator IC?
Precision Centigrade Temperature Sensor
pins: 1 +Vs (power), 2 Vo (out), 3 GND (power)
text: °C

## LM35DM
designator IC?
Precision Centigrade Temperature Sensor
pins: 1 Vo (out), 2 N.C., 3 N.C., 4 GND (power), 5 N.C., 6 N.C., 7 N.C., 8 +Vs (power)
text: °C

## LM35DT_h
designator IC?
Precision Centigrade Temperature Sensor
pins: 1 +Vs (power), 2 GND (power), 3 Vo (out), 4 GND (power)
text: °C

## LM35DT_v
designator IC?
Precision Centigrade Temperature Sensor
pins: 1 +Vs (power), 2 GND (power), 3 Vo (out)
text: °C

## LM45
designator IC?
-20° to +100°C ±3°C Precision Centigrade Temperature Sensors
pins: 1 +Vs (power), 2 Vo (out), 3 GND (power)
text: °C

## LM75
designator IC?
Digital Temperature Sensor and Thermal Watchdog with Two-Wire Interface
pins: 1 SDA (io), 2 SCL (in), 3 O.S. (out), 4 GND (power), 5 A2 (in), 6 A1 (in), 7 A0 (in), 8 +VS (power)
text: °C

## LM94021
designator IC?
-50° to +150°C, Multi-Gain Analog Temperature Sensor
pins: 1 GS0 (in), 2 GND (power), 3 OUT (out), 4 VDD (power), 5 GS1 (in)
text: °C

## LMT70
designator IC?
−55°C to 150°C Precision Analog Temperature Sensor, RTD and Precision NTC Thermistor IC
pins: A1 GND (power), A2 VDD (power), B1 TAO (out), B2 T_ON (power)
text: °C

## LMT86DCK
designator IC?
-50° to +150°C, Analog Temperature Sensors with Class-AB Output
pins: 1 GND (power), 2 GND (power), 3 OUT (out), 4 VDD (power), 5 VDD (power)
text: °C

## LSM6DB0
designator IC?
iNEMO Advanced Inertial Module: 3D Accelerometer, 3D Gyroscope and Signal Processor
pins: 1 VDD1.8 (power), 2 DIO0 (io), 3 DIO1 (io), 4 DIO2 (io), 5 RESET (in), 6 DIO3 (io), 7 DIO4 (io), 8 DIO5 (io), 9 DIO8 (io), 10 DIO6 (io), 11 DIO7 (io), 12 GND (power), 13 LD01.2, 14 VDD (power), 15 DIO10 (io), 16 DIO9 (io), 17 RES (power), 18 RES (power), 19 CS (power), 20 CAP (io)
text: +z; +y; +x

## LTS 15-NP
designator IC?
Current Transducer (Ipn=±15A)
pins: 1 IN1 (in), 2 IN2 (in), 3 IN3 (in), 4 OUT3 (out), 5 OUT2 (out), 6 OUT1 (out), 7 +5V (power), 8 0V (power), 9 OUT (out)
text: RIM; Ip; -; +; REF

## LTSR
designator IC?
Current Transducer
pins: 1 IN1 (in), 2 IN2 (in), 3 IN3 (in), 4 OUT3 (out), 5 OUT2 (out), 6 OUT1 (out), 7 +5V (power), 8 0V (power), 9 OUT (out), 10 REF (in)
text: RIM; Ip; -; +

## LV 25-P
designator IC?
VoltageTransducer (Vpn=10..500V)
pins: 1 M (out), 2 + (power), 3 - (power), 4 HT+ (in), 5 HT- (in)

## Magnetic Proximity Sensor NO
designator SW?
Magnetic Proximity Sensor Normaly Open Contact
pins: 1 (io), 2 (io)

## MAX6642ATT
designator IC?
±1°C, SMBus-Compatible Remote/Local Temperature Sensor with Overtemperature Alarm
pins: 1 VCC (power), 2 GND (power), 3 DXP (in), 4 SCLK (in), 5 SDA (io), 6 ~{ALERT} (out), 7 EP (power)
text: °C

## MCP9801-M/MS
designator IC?
2-Wire High-Accuracy Temperature Sensor
pins: 1 SDA (io), 2 SCLK (in), 3 ALERT (out), 4 GND (power), 5 A2 (in), 6 A1 (in), 7 A0 (in), 8 VDD (power)
text: °C

## MCP9804-E/MS
designator IC?
±0.25°C Typical Accuracy Digital Temperature Sensor
pins: 1 SDA (io), 2 SCLK (in), 3 ALERT (out), 4 GND (power), 5 A2 (in), 6 A1 (in), 7 A0 (in), 8 VDD (power)
text: °C

## MCP98243-BE-MC
designator IC?
Memory Module Temperature Sensor w/ EEPROM for SPD
pins: 1 A0 (in), 2 A1 (in), 3 A2 (in), 4 GND (power), 5 SDA (io), 6 SCL (in), 7 EVENT (out), 8 VDD (power), 9 EP (power)
text: °C

## MICROFB-60035-SMT
designator IC?
7x7 mm, Fast, Blue-Sensitive Silicon Photomultiplier Sensor, FB 60000 Series
pins: 1 A (io), 2 FAST (io), 3 C (io), 4 NC (io), 5 NC (io)
text: SiPM

## MP3V5004DP
designator IC?
Integrated Silicon Pressure Sensor, On-Chip Signal Conditioned, Temperature Compensated and Calibrated
part A pins: 2 Vs (power), 3 GND (power), 4 VOUT (out)
part B pins: 1 NC, 5 NC, 6 NC, 7 NC, 8 NC
part A text: P1; Differential; Pressure; Sensor; P2

## MQ-3
designator IC?
High Sensitivity to Alcohol and Small Sensitivity to Benzine Sensor
pins: A1 A, A2 A, B1 B, B2 B, H1, H2
text: GAS

## P14-FEMTOCAP-G
designator IC?
Humidity Sensor Chip
pins: 1, 2
text: %RH

## PCT2202UKZ
designator IC?
Ultra Low Power, 1.8 V, 1°C Accuracy, Digital Temperature Sensor With I2C-bus Interface
pins: A1 SDA (io), A2 SCL (in), B1 VCC (power), B2 GND (power), C1 A0 (in), C2 ALERT (out)
text: °C

## Photodiode
designator D?
Photodiode
pins: 1 C, 2 A

## Photoresistor
designator R?
Photoresistor
pins: 1, 2

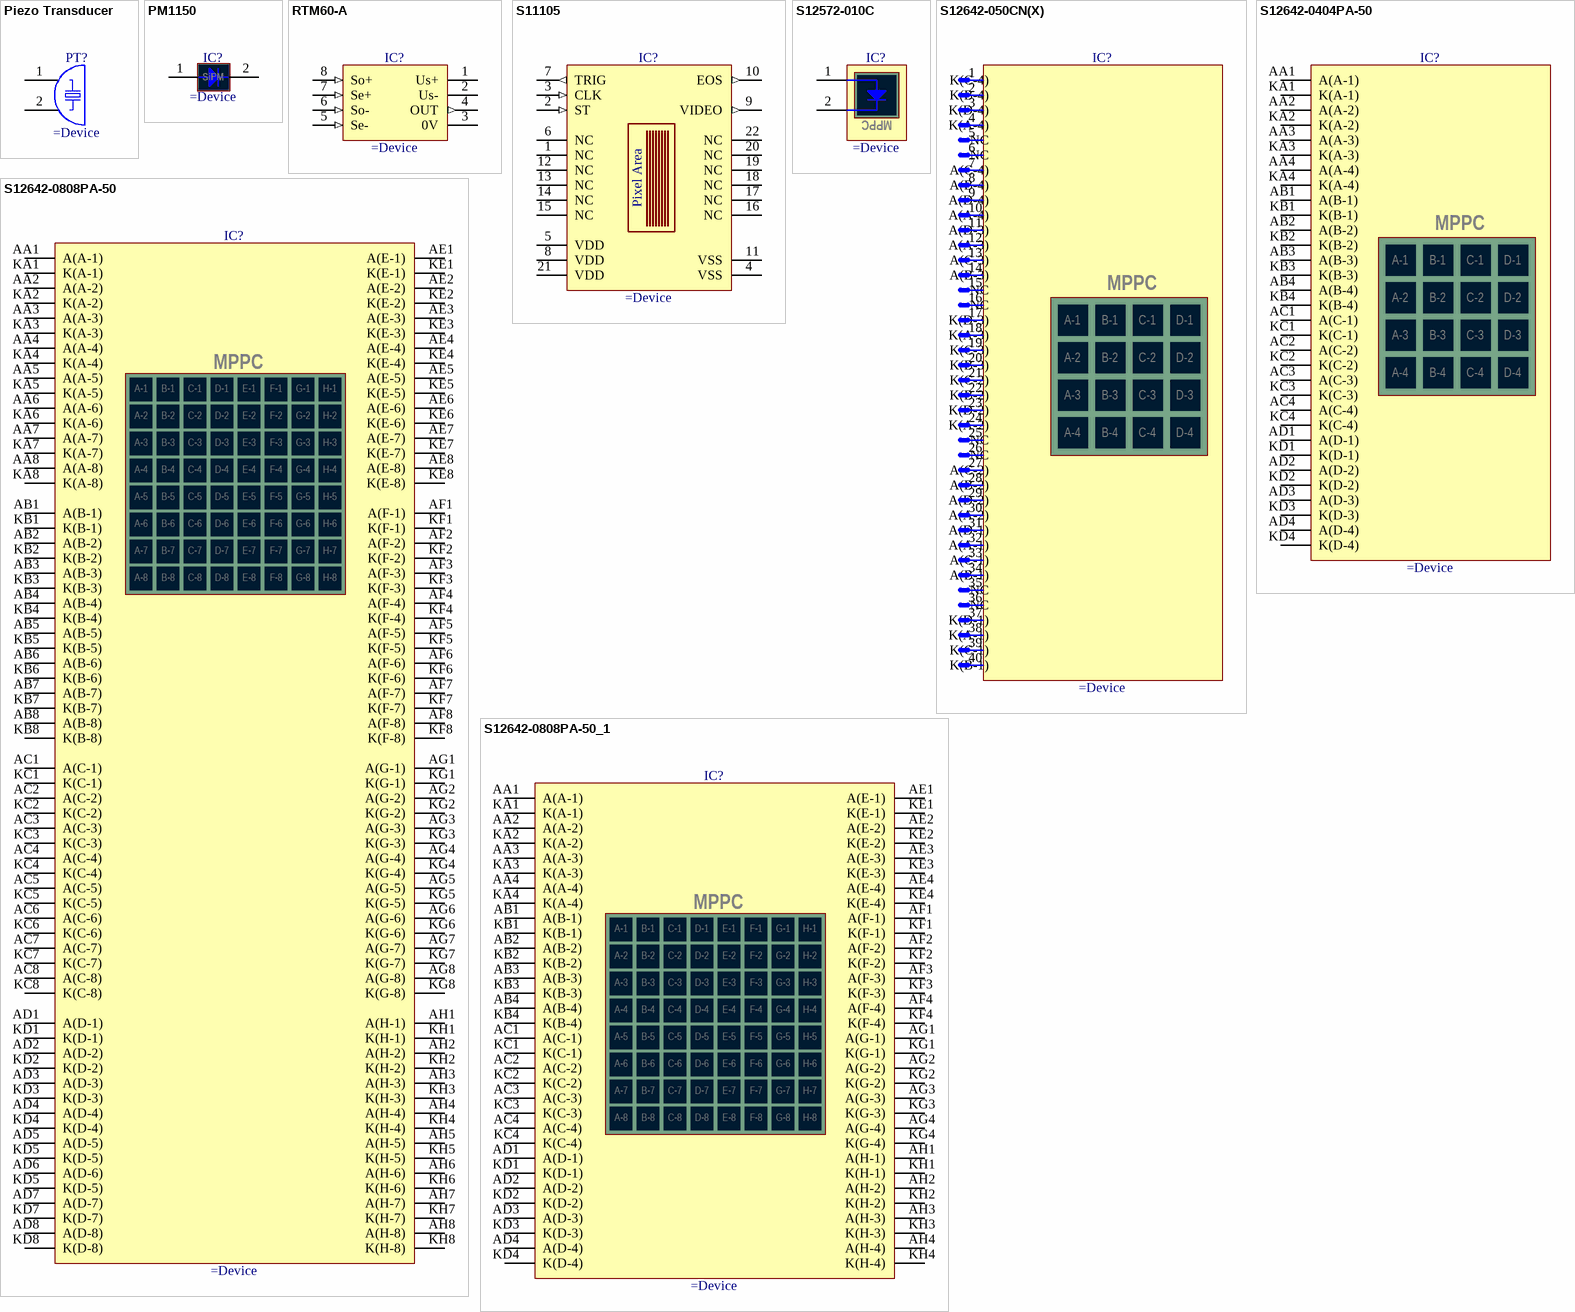
[diagram p4: symbols Piezo Transducer to S12642-0808PA-50_1]

## Piezo Transducer
designator PT?
Piezo Transducer
pins: 1, 2

## PM1150
designator IC?
1.2 x 1.2mm2, 50μm Microcell Type, SMD Silicon Photomultiplier
pins: 1 A, 2 FAST
text: SiPM

## RTM60-A
designator IC?
Transducer For Pt-100, Resistors
pins: 1 Us+ (power), 2 Us- (power), 3 0V (power), 4 OUT (out), 5 Se- (in), 6 So- (in), 7 Se+ (in), 8 So+ (in)

## S11105
designator IC?
512 Pixels 50MHz Video Data Rate CMOS Linear Image Sensor
pins: 1 NC, 2 ST (in), 3 CLK (in), 4 VSS (power), 5 VDD (power), 6 NC, 7 TRIG (out), 8 VDD (power), 9 VIDEO (out), 10 EOS (out), 11 VSS (power), 12 NC, 13 NC, 14 NC, 15 NC, 16 NC, 17 NC, 18 NC, 19 NC, 20 NC, 21 VDD (power), 22 NC
text: Pixel Area

## S12572-010C
designator IC?
Single Element MPPC (Multi-Pixel Photon Counter)
pins: 1 A, 2 C
text: MPPC

## S12642-050CN(X)
designator IC?
4x4 Channel MPPC (Multi-Pixel Photon Counter)
text: 1; K(C-4); 2; K(B-4); 3; K(D-4); 4; K(A-4); 5; NC; 6; 7; A(C-4); 8; A(B-4); 9; A(D-4); 10; A(A-4); 11; A(D-3); 12; A(A-3); 13; A(C-3); 14; A(B-3); 15; MPPC; 16; 17; K(D-3); A-1; B-1; C-1; D-1; 18; K(A-3); 19; K(C-3); 20; A-2; B-2; C-2; D-2; K(B-3); 21; K(C-2); 22; K(B-2); A-3; B-3; C-3; D-3; 23; K(D-2); 24; K(A-2); 25; A-4; B-4; C-4; D-4; 26; 27; A(C-2); 28; A(B-2); 29; A(D-2); 30; A(A-2); 31; A(D-1); 32; A(A-1); 33; A(C-1); 34; A(B-1); 35; 36; 37; K(D-1); 38; K(A-1); 39; K(C-1); 40; K(B-1)

## S12642-0404PA-50
designator IC?
3x3mm2, 16 Channel (4x4) TSV MPPC (Multi-Pixel Photon Counter)
pins: AA1 A(A-1), AA2 A(A-2), AA3 A(A-3), AA4 A(A-4), AB1 A(B-1), AB2 A(B-2), AB3 A(B-3), AB4 A(B-4), AC1 A(C-1), AC2 A(C-2), AC3 A(C-3), AC4 A(C-4), AD1 A(D-1), AD2 A(D-2), AD3 A(D-3), AD4 A(D-4), KA1 K(A-1), KA2 K(A-2), KA3 K(A-3), KA4 K(A-4), KB1 K(B-1), KB2 K(B-2), KB3 K(B-3), KB4 K(B-4), KC1 K(C-1), KC2 K(C-2), KC3 K(C-3), KC4 K(C-4), KD1 K(D-1), KD2 K(D-2), KD3 K(D-3), KD4 K(D-4)
text: MPPC; A-1; B-1; C-1; D-1; A-2; B-2; C-2; D-2; A-3; B-3; C-3; D-3; A-4; B-4; C-4; D-4

## S12642-0808PA-50
designator IC?
3x3mm2, 64 Channel (8x8) TSV MPPC (Multi-Pixel Photon Counter)
pins: AA1 A(A-1), AA2 A(A-2), AA3 A(A-3), AA4 A(A-4), AA5 A(A-5), AA6 A(A-6), AA7 A(A-7), AA8 A(A-8), AB1 A(B-1), AB2 A(B-2), AB3 A(B-3), AB4 A(B-4), AB5 A(B-5), AB6 A(B-6), AB7 A(B-7), AB8 A(B-8), AC1 A(C-1), AC2 A(C-2), AC3 A(C-3), AC4 A(C-4), AC5 A(C-5), AC6 A(C-6), AC7 A(C-7), AC8 A(C-8), AD1 A(D-1), AD2 A(D-2), AD3 A(D-3), AD4 A(D-4), AD5 A(D-5), AD6 A(D-6), AD7 A(D-7), AD8 A(D-8), AE1 A(E-1), AE2 A(E-2), AE3 A(E-3), AE4 A(E-4), AE5 A(E-5), AE6 A(E-6), AE7 A(E-7), AE8 A(E-8), AF1 A(F-1), AF2 A(F-2), AF3 A(F-3), AF4 A(F-4), AF5 A(F-5), AF6 A(F-6), AF7 A(F-7), AF8 A(F-8), AG1 A(G-1), AG2 A(G-2), AG3 A(G-3), AG4 A(G-4), AG5 A(G-5), AG6 A(G-6), AG7 A(G-7), AG8 A(G-8), AH1 A(H-1), AH2 A(H-2), AH3 A(H-3), AH4 A(H-4), AH5 A(H-5), AH6 A(H-6), AH7 A(H-7), AH8 A(H-8), KA1 K(A-1), KA2 K(A-2), KA3 K(A-3), KA4 K(A-4), KA5 K(A-5), KA6 K(A-6), KA7 K(A-7), KA8 K(A-8), KB1 K(B-1), KB2 K(B-2), KB3 K(B-3), KB4 K(B-4), KB5 K(B-5), KB6 K(B-6), KB7 K(B-7), KB8 K(B-8), KC1 K(C-1), KC2 K(C-2), KC3 K(C-3), KC4 K(C-4), KC5 K(C-5), KC6 K(C-6), KC7 K(C-7), KC8 K(C-8), KD1 K(D-1), KD2 K(D-2), KD3 K(D-3), KD4 K(D-4), KD5 K(D-5), KD5 K(D-5), KD7 K(D-7), KD8 K(D-8), KE1 K(E-1), KE2 K(E-2), KE3 K(E-3), KE4 K(E-4), KE5 K(E-5), KE6 K(E-6), KE7 K(E-7), KE8 K(E-8), KF1 K(F-1), KF2 K(F-2), KF3 K(F-3), KF4 K(F-4), KF5 K(F-5), KF6 K(F-6), KF7 K(F-7), KF8 K(F-8), KG1 K(G-1), KG2 K(G-2), KG3 K(G-3), KG4 K(G-4), KG5 K(G-5), KG6 K(G-6), KG7 K(G-7), KG8 K(G-8), KH1 K(H-1), KH2 K(H-2), KH3 K(H-3), KH4 K(H-4), KH5 K(H-5), KH6 K(H-6), KH7 K(H-7), KH8 K(H-8)
text: MPPC; A-1; B-1; C-1; D-1; E-1; F-1; G-1; H-1; A-2; B-2; C-2; D-2; E-2; F-2; G-2; H-2; A-3; B-3; C-3; D-3; E-3; F-3; G-3; H-3; A-4; B-4; C-4; D-4; E-4; F-4; G-4; H-4; A-5; B-5; C-5; D-5; E-5; F-5; G-5; H-5; A-6; B-6; C-6; D-6; E-6; F-6; G-6; H-6; A-7; B-7; C-7; D-7; E-7; F-7; G-7; H-7; A-8; B-8; C-8; D-8; E-8; F-8; G-8; H-8

## S12642-0808PA-50_1
designator IC?
3x3mm2, 64 Channel (8x8) TSV MPPC (Multi-Pixel Photon Counter)
pins: AA1 A(A-1), AA2 A(A-2), AA3 A(A-3), AA4 A(A-4), AB1 A(B-1), AB2 A(B-2), AB3 A(B-3), AB4 A(B-4), AC1 A(C-1), AC2 A(C-2), AC3 A(C-3), AC4 A(C-4), AD1 A(D-1), AD2 A(D-2), AD3 A(D-3), AD4 A(D-4), AE1 A(E-1), AE2 A(E-2), AE3 A(E-3), AE4 A(E-4), AF1 A(F-1), AF2 A(F-2), AF3 A(F-3), AF4 A(F-4), AG1 A(G-1), AG2 A(G-2), AG3 A(G-3), AG4 A(G-4), AH1 A(H-1), AH2 A(H-2), AH3 A(H-3), AH4 A(H-4), KA1 K(A-1), KA2 K(A-2), KA3 K(A-3), KA4 K(A-4), KB1 K(B-1), KB2 K(B-2), KB3 K(B-3), KB4 K(B-4), KC1 K(C-1), KC2 K(C-2), KC3 K(C-3), KC4 K(C-4), KD1 K(D-1), KD2 K(D-2), KD3 K(D-3), KD4 K(D-4), KE1 K(E-1), KE2 K(E-2), KE3 K(E-3), KE4 K(E-4), KF1 K(F-1), KF2 K(F-2), KF3 K(F-3), KF4 K(F-4), KG1 K(G-1), KG2 K(G-2), KG3 K(G-3), KG4 K(G-4), KH1 K(H-1), KH2 K(H-2), KH3 K(H-3), KH4 K(H-4)
text: MPPC; A-1; B-1; C-1; D-1; E-1; F-1; G-1; H-1; A-2; B-2; C-2; D-2; E-2; F-2; G-2; H-2; A-3; B-3; C-3; D-3; E-3; F-3; G-3; H-3; A-4; B-4; C-4; D-4; E-4; F-4; G-4; H-4; A-5; B-5; C-5; D-5; E-5; F-5; G-5; H-5; A-6; B-6; C-6; D-6; E-6; F-6; G-6; H-6; A-7; B-7; C-7; D-7; E-7; F-7; G-7; H-7; A-8; B-8; C-8; D-8; E-8; F-8; G-8; H-8

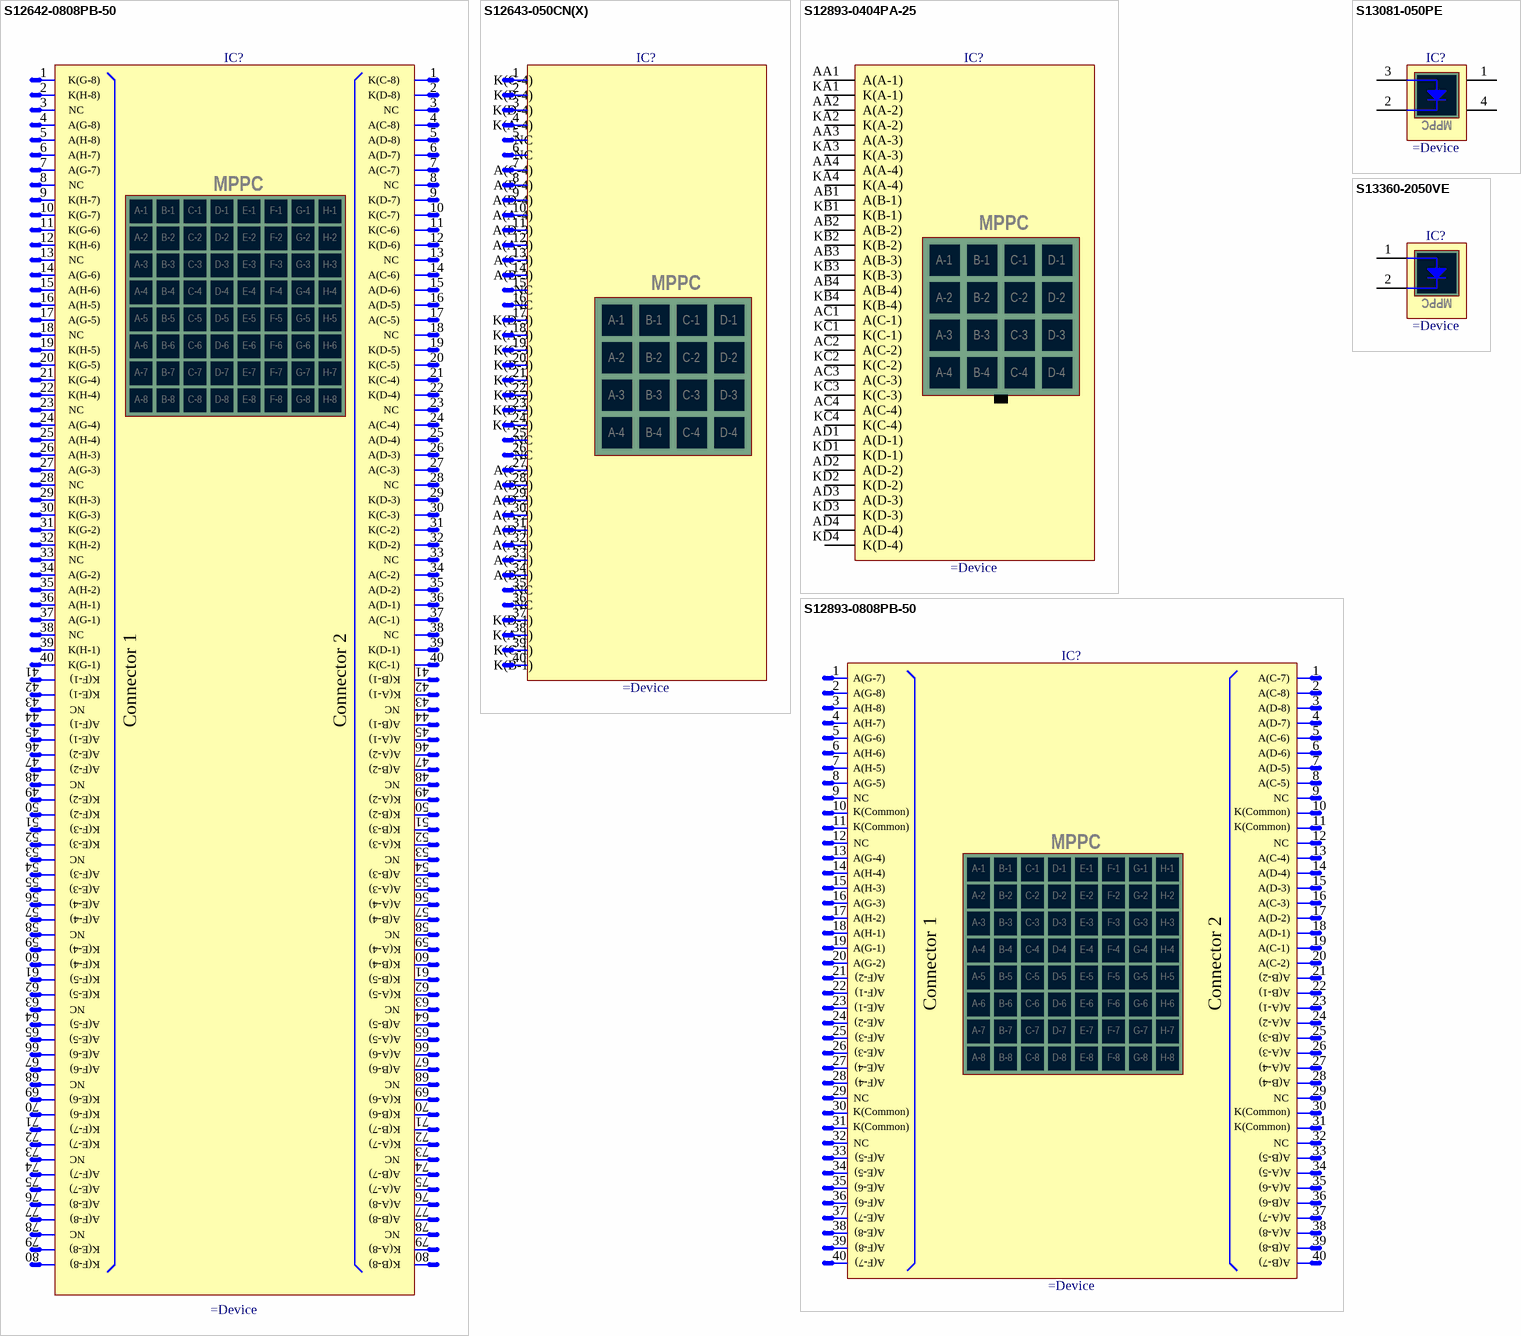
[diagram p5: symbols S12642-0808PB-50 to S13360-2050VE]

## S12642-0808PB-50
designator IC?
3x3mm2, 64 Channel (8x8) TSV MPPC (Multi-Pixel Photon Counter)
text: 1; K(G-8); K(C-8); 2; K(H-8); K(D-8); 3; NC; 4; A(G-8); A(C-8); 5; A(H-8); A(D-8); 6; A(H-7); A(D-7); 7; A(G-7); A(C-7); 8; MPPC; 9; K(H-7); K(D-7); 10; A-1; B-1; C-1; D-1; E-1; F-1; G-1; H-1; K(G-7); K(C-7); 11; K(G-6); K(C-6); 12; A-2; B-2; C-2; D-2; E-2; F-2; G-2; H-2; K(H-6); K(D-6); 13; 14; A-3; B-3; C-3; D-3; E-3; F-3; G-3; H-3; A(G-6); A(C-6); 15; A(H-6); A-4; B-4; C-4; D-4; E-4; F-4; G-4; H-4; A(D-6); 16; A(H-5); A(D-5); 17; A(G-5); A-5; B-5; C-5; D-5; E-5; F-5; G-5; H-5; A(C-5); 18; 19; A-6; B-6; C-6; D-6; E-6; F-6; G-6; H-6; K(H-5); K(D-5); 20; K(G-5); K(C-5); 21; A-7; B-7; C-7; D-7; E-7; F-7; G-7; H-7; K(G-4); K(C-4); 22; K(H-4); K(D-4); 23; A-8; B-8; C-8; D-8; E-8; F-8; G-8; H-8; 24; A(G-4); A(C-4); 25; A(H-4); A(D-4); 26; A(H-3); A(D-3); 27; A(G-3); A(C-3); 28; 29; K(H-3); K(D-3); 30; K(G-3); K(C-3); 31; K(G-2); K(C-2); 32; K(H-2); K(D-2); 33; 34; A(G-2); A(C-2); 35; A(H-2); A(D-2); 36; A(H-1); A(D-1); 37; A(G-1); A(C-1); 38; 39; K(H-1); K(D-1); 40; K(G-1); K(C-1); 41; K(F-1); Connector 1; Connector 2; K(B-1); 42; K(E-1); K(A-1); 43; 44; A(F-1); A(B-1); 45; A(E-1); A(A-1); 46; A(E-2); A(A-2); 47; A(F-2); A(B-2); 48; 49; K(E-2); K(A-2); 50; K(F-2); K(B-2); 51; K(F-3); K(B-3); 52; K(E-3); K(A-3); 53; 54; A(F-3); A(B-3); 55; A(E-3); A(A-3); 56; A(E-4); A(A-4); 57; A(F-4); A(B-4); 58; 59; K(E-4); K(A-4); 60; K(F-4); K(B-4); 61; K(F-5); K(B-5); 62; K(E-5); K(A-5); 63; 64; A(F-5); A(B-5); 65; A(E-5); A(A-5); 66; A(E-6); A(A-6); 67; A(F-6); A(B-6); 68; 69; K(E-6); K(A-6); 70; K(F-6); K(B-6); 71; K(F-7); K(B-7); 72; K(E-7); K(A-7); 73; 74; A(F-7); A(B-7); 75; A(E-7); A(A-7); 76; A(E-8); A(A-8); 77; A(F-8); A(B-8); 78; 79; K(E-8); K(A-8); 80; K(F-8); K(B-8)

## S12643-050CN(X)
designator IC?
4x4 Channel MPPC (Multi-Pixel Photon Counter)
text: 1; K(C-4); 2; K(B-4); 3; K(D-4); 4; K(A-4); 5; NC; 6; 7; A(C-4); 8; A(B-4); 9; A(D-4); 10; A(A-4); 11; A(D-3); 12; A(A-3); 13; A(C-3); 14; A(B-3); 15; MPPC; 16; 17; K(D-3); A-1; B-1; C-1; D-1; 18; K(A-3); 19; K(C-3); 20; A-2; B-2; C-2; D-2; K(B-3); 21; K(C-2); 22; K(B-2); A-3; B-3; C-3; D-3; 23; K(D-2); 24; K(A-2); 25; A-4; B-4; C-4; D-4; 26; 27; A(C-2); 28; A(B-2); 29; A(D-2); 30; A(A-2); 31; A(D-1); 32; A(A-1); 33; A(C-1); 34; A(B-1); 35; 36; 37; K(D-1); 38; K(A-1); 39; K(C-1); 40; K(B-1)

## S12893-0404PA-25
designator IC?
2X2mm2, 16 Channel (4x4) TSV MPPC (Multi-Pixel Photon Counter)
pins: AA1 A(A-1), AA2 A(A-2), AA3 A(A-3), AA4 A(A-4), AB1 A(B-1), AB2 A(B-2), AB3 A(B-3), AB4 A(B-4), AC1 A(C-1), AC2 A(C-2), AC3 A(C-3), AC4 A(C-4), AD1 A(D-1), AD2 A(D-2), AD3 A(D-3), AD4 A(D-4), KA1 K(A-1), KA2 K(A-2), KA3 K(A-3), KA4 K(A-4), KB1 K(B-1), KB2 K(B-2), KB3 K(B-3), KB4 K(B-4), KC1 K(C-1), KC2 K(C-2), KC3 K(C-3), KC4 K(C-4), KD1 K(D-1), KD2 K(D-2), KD3 K(D-3), KD4 K(D-4)
text: MPPC; A-1; B-1; C-1; D-1; A-2; B-2; C-2; D-2; A-3; B-3; C-3; D-3; A-4; B-4; C-4; D-4

## S12893-0808PB-50
designator IC?
2x2mm2, 64 Channel (8x8) TSV MPPC (Multi-Pixel Photon Counter)
text: 1; A(G-7); A(C-7); 2; A(G-8); A(C-8); 3; A(H-8); A(D-8); 4; A(H-7); A(D-7); 5; A(G-6); A(C-6); 6; A(H-6); A(D-6); 7; A(H-5); A(D-5); 8; A(G-5); A(C-5); 9; NC; 10; K(Common); 11; 12; MPPC; 13; A(G-4); A(C-4); 14; A-1; B-1; C-1; D-1; E-1; F-1; G-1; H-1; A(H-4); A(D-4); 15; A(H-3); A(D-3); 16; A-2; B-2; C-2; D-2; E-2; F-2; G-2; H-2; A(G-3); A(C-3); 17; A(H-2); A(D-2); 18; A-3; B-3; C-3; D-3; E-3; F-3; G-3; H-3; A(H-1); A(D-1); 19; A(G-1); A-4; B-4; C-4; D-4; E-4; F-4; G-4; H-4; A(C-1); 20; A(G-2); Connector 1; Connector 2; A(C-2); 21; A(F-2); A-5; B-5; C-5; D-5; E-5; F-5; G-5; H-5; A(B-2); 22; A(F-1); A(B-1); 23; A-6; B-6; C-6; D-6; E-6; F-6; G-6; H-6; A(E-1); A(A-1); 24; A(E-2); A(A-2); 25; A-7; B-7; C-7; D-7; E-7; F-7; G-7; H-7; A(F-3); A(B-3); 26; A(E-3); A(A-3); 27; A-8; B-8; C-8; D-8; E-8; F-8; G-8; H-8; A(E-4); A(A-4); 28; A(F-4); A(B-4); 29; 30; 31; 32; 33; A(F-5); A(B-5); 34; A(E-5); A(A-5); 35; A(E-6); A(A-6); 36; A(F-6); A(B-6); 37; A(E-7); A(A-7); 38; A(E-8); A(A-8); 39; A(F-8); A(B-8); 40; A(F-7); A(B-7)

## S13081-050PE
designator IC?
MPPC (Multi-Pixel Photon Counter)
pins: 1 NC, 2 C, 3 A, 4 NC
text: MPPC

## S13360-2050VE
designator IC?
Single Element MPPC (Multi-Pixel Photon Counter)
pins: 1 A, 2 C
text: MPPC

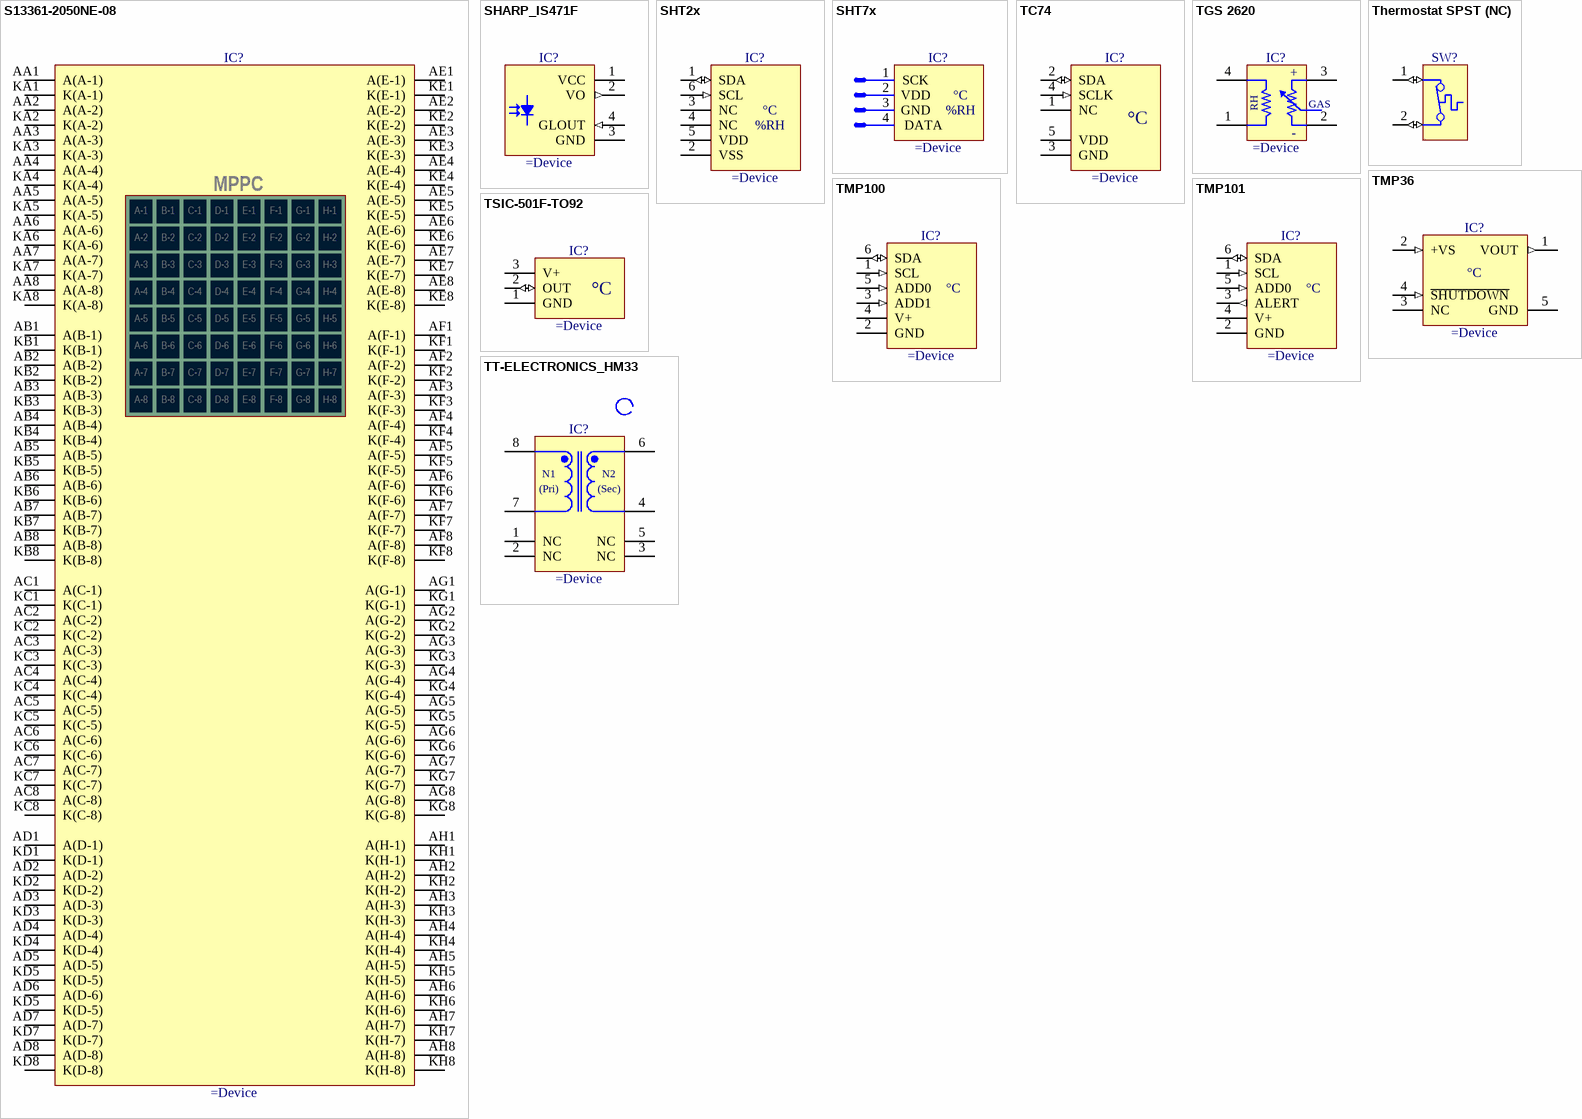
[diagram p6: symbols S13361-2050NE-08 to TT-ELECTRONICS_HM33]

## S13361-2050NE-08
designator IC?
2x2mm, 64 Channel (8x8) TSV MPPC (Multi-Pixel Photon Counter), Body 17.8 x 17.8 x 1.55mm
pins: AA1 A(A-1), AA2 A(A-2), AA3 A(A-3), AA4 A(A-4), AA5 A(A-5), AA6 A(A-6), AA7 A(A-7), AA8 A(A-8), AB1 A(B-1), AB2 A(B-2), AB3 A(B-3), AB4 A(B-4), AB5 A(B-5), AB6 A(B-6), AB7 A(B-7), AB8 A(B-8), AC1 A(C-1), AC2 A(C-2), AC3 A(C-3), AC4 A(C-4), AC5 A(C-5), AC6 A(C-6), AC7 A(C-7), AC8 A(C-8), AD1 A(D-1), AD2 A(D-2), AD3 A(D-3), AD4 A(D-4), AD5 A(D-5), AD6 A(D-6), AD7 A(D-7), AD8 A(D-8), AE1 A(E-1), AE2 A(E-2), AE3 A(E-3), AE4 A(E-4), AE5 A(E-5), AE6 A(E-6), AE7 A(E-7), AE8 A(E-8), AF1 A(F-1), AF2 A(F-2), AF3 A(F-3), AF4 A(F-4), AF5 A(F-5), AF6 A(F-6), AF7 A(F-7), AF8 A(F-8), AG1 A(G-1), AG2 A(G-2), AG3 A(G-3), AG4 A(G-4), AG5 A(G-5), AG6 A(G-6), AG7 A(G-7), AG8 A(G-8), AH1 A(H-1), AH2 A(H-2), AH3 A(H-3), AH4 A(H-4), AH5 A(H-5), AH6 A(H-6), AH7 A(H-7), AH8 A(H-8), KA1 K(A-1), KA2 K(A-2), KA3 K(A-3), KA4 K(A-4), KA5 K(A-5), KA6 K(A-6), KA7 K(A-7), KA8 K(A-8), KB1 K(B-1), KB2 K(B-2), KB3 K(B-3), KB4 K(B-4), KB5 K(B-5), KB6 K(B-6), KB7 K(B-7), KB8 K(B-8), KC1 K(C-1), KC2 K(C-2), KC3 K(C-3), KC4 K(C-4), KC5 K(C-5), KC6 K(C-6), KC7 K(C-7), KC8 K(C-8), KD1 K(D-1), KD2 K(D-2), KD3 K(D-3), KD4 K(D-4), KD5 K(D-5), KD5 K(D-5), KD7 K(D-7), KD8 K(D-8), KE1 K(E-1), KE2 K(E-2), KE3 K(E-3), KE4 K(E-4), KE5 K(E-5), KE6 K(E-6), KE7 K(E-7), KE8 K(E-8), KF1 K(F-1), KF2 K(F-2), KF3 K(F-3), KF4 K(F-4), KF5 K(F-5), KF6 K(F-6), KF7 K(F-7), KF8 K(F-8), KG1 K(G-1), KG2 K(G-2), KG3 K(G-3), KG4 K(G-4), KG5 K(G-5), KG6 K(G-6), KG7 K(G-7), KG8 K(G-8), KH1 K(H-1), KH2 K(H-2), KH3 K(H-3), KH4 K(H-4), KH5 K(H-5), KH6 K(H-6), KH7 K(H-7), KH8 K(H-8)
text: MPPC; A-1; B-1; C-1; D-1; E-1; F-1; G-1; H-1; A-2; B-2; C-2; D-2; E-2; F-2; G-2; H-2; A-3; B-3; C-3; D-3; E-3; F-3; G-3; H-3; A-4; B-4; C-4; D-4; E-4; F-4; G-4; H-4; A-5; B-5; C-5; D-5; E-5; F-5; G-5; H-5; A-6; B-6; C-6; D-6; E-6; F-6; G-6; H-6; A-7; B-7; C-7; D-7; E-7; F-7; G-7; H-7; A-8; B-8; C-8; D-8; E-8; F-8; G-8; H-8

## SHARP_IS471F
designator IC?
OPIC Light Detector
pins: 1 VCC (power), 2 VO (out), 3 GND (power), 4 GLOUT (in)

## SHT2x
designator IC?
Humidity and Temperature Sensor IC
pins: 1 SDA (io), 2 VSS (power), 3 NC, 4 NC, 5 VDD (power), 6 SCL (in)
text: °C; %RH

## SHT7x
designator IC?
Humidity and Temperature Sensor IC
text: 1; SCK; 2; VDD; °C; 3; GND; %RH; 4; DATA

## TC74
designator IC?
0° to +125°C, ±3°C Accurate, 8-Bit Tiny Serial Digital Thermal Sensor
pins: 1 NC, 2 SDA (io), 3 GND (power), 4 SCLK (in), 5 VDD (power)
text: °C

## TGS 2620
designator IC?
High Sensitivity Alcohol and Organic Solvent Detector
pins: 1, 2, 3, 4
text: +; RH; GAS; -

## Thermostat SPST (NC)
designator SW?
Thermostat SPST (Normaly Close Contact)
pins: 1 (io), 2 (io)

## TMP36
designator IC?
Low Voltage Temperature Sensors
pins: 1 VOUT (out), 2 +VS (in), 3 NC, 4 ~{SHUTDOWN} (in), 5 GND (power)
text: °C

## TMP100
designator IC?
Digital Temperature Sensor with I2C Interface
pins: 1 SCL (in), 2 GND (power), 3 ADD1 (in), 4 V+ (power), 5 ADD0 (in), 6 SDA (io)
text: °C

## TMP101
designator IC?
Digital Temperature Sensor with I2C Interface
pins: 1 SCL (in), 2 GND (power), 3 ALERT (out), 4 V+ (power), 5 ADD0 (in), 6 SDA (io)
text: °C

## TSIC-501F-TO92
designator IC?
High Precision, Longterm Stable Temperature Sensor IC
pins: 1 GND (power), 2 OUT (io), 3 V+ (power)
text: °C

## TT-ELECTRONICS_HM33
designator IC?
Current Sense Surface Mount Transformers
pins: 1 NC, 2 NC, 3 NC, 4 SEC4, 5 NC, 6 SEC6, 7 PRIM7, 8 PRIM8
text: N1; N2; (Pri); (Sec)